# Altium integrated library AltiumOpenLibs.IntLib: 190 symbols (part 1 of 2)
Pins are listed as number, name and electrical type; pins without a type are passive.

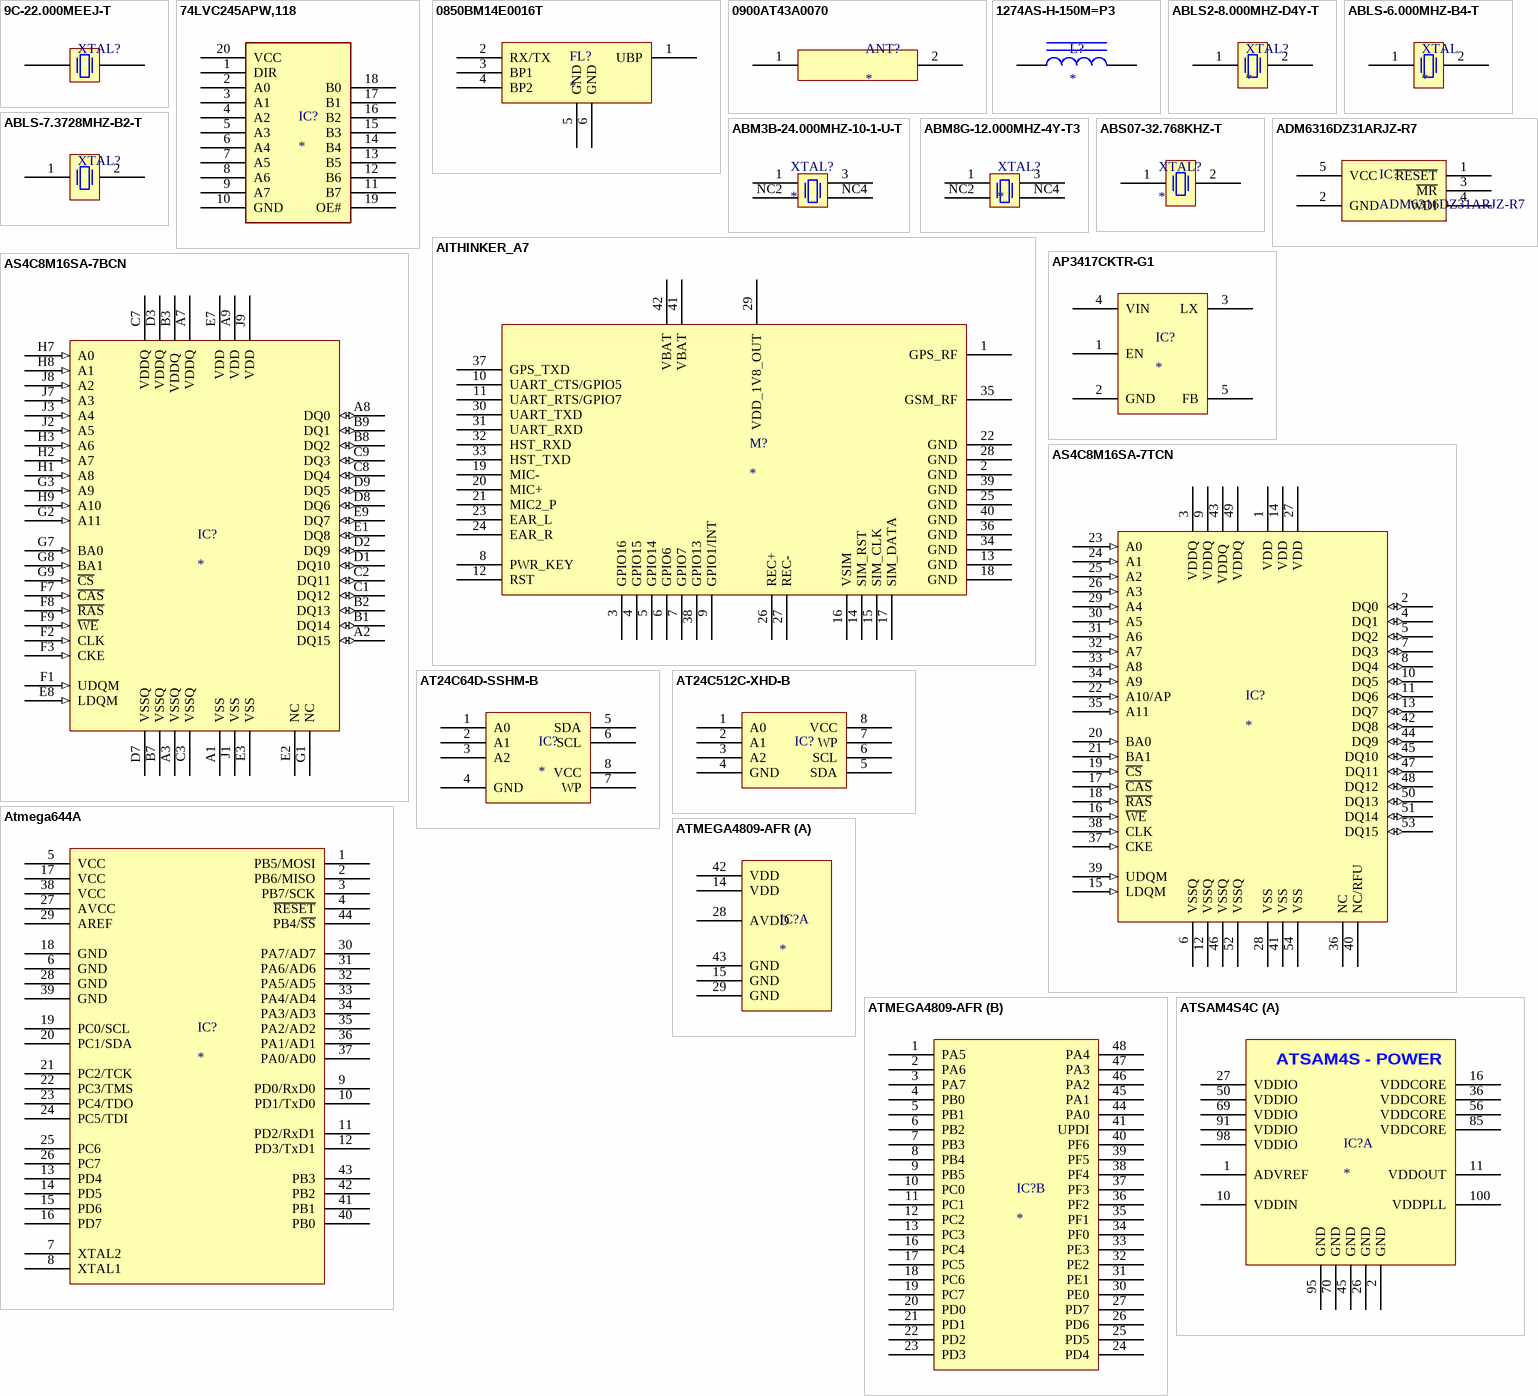
[diagram p0: symbols 9C-22.000MEEJ-T to ATSAM4S4C]

## 9C-22.000MEEJ-T
designator XTAL?  (value not drawn)
TXC  9C-22.000MEEJ-T  XTAL, 22.000MHZ, 18PF, SMD, HC-49S; Manufacturer Part No: 9C-22.000MEEJ-T; Manufacturer: TXC; Component Type: Crystal; Order Code: *; Supplier: *
footprint 9C-22.000MEEJ-T
pins: 1, 2

## 74LVC245APW,118
designator IC?
Manufacturer: NEXPERIA; Manufacturer Part No: 74LVC245APW,118; Component Type: IC; Order Code: *; Supplier: *
footprint 74LVC245APW,118
pins: 1 DIR, 2 A0, 3 A1, 4 A2, 5 A3, 6 A4, 7 A5, 8 A6, 9 A7, 10 GND, 11 B7, 12 B6, 13 B5, 14 B4, 15 B3, 16 B2, 17 B1, 18 B0, 19 OE#, 20 VCC

## 0850BM14E0016T
designator FL?
Manufacturer: Johanson Technology; Manufacturer Part No: 0850BM14E0016T; Component Type: Balun; Order Code: *; Supplier: *
footprint 0850BM14E0016T
pins: 1 UBP, 2 RX/TX, 3 BP1, 4 BP2, 5 GND, 6 GND

## 0900AT43A0070
designator ANT?
Manufacturer: Johanson Technology; Manufacturer Part No: 0900AT43A0070; Component Type: Antenna; Order Code: *; Supplier: *
footprint 0900AT43A0070
pins: 1, 2

## 1274AS-H-150M=P3
designator L?
Manufacturer Part No: 1274AS-H-150M=P3; Manufacturer: MURATA; Component Type: Inductor; Order Code: *; Supplier: *
footprint 1274AS-H-150M=P3 (Chip Inductor, 2-Leads, Body 10.00x10.00mm, IPC Medium Density)
pins: 1, 2

## ABLS2-8.000MHZ-D4Y-T
designator XTAL?
Crystal, 8 MHz, SMD, 11.4mm x 4.7mm, 30 ppm, 18 pF, 30 ppm, ABLS2 Series; Manufacturer: ABRACON; Manufacturer Part No: ABLS2-8.000MHZ-D4Y-T; Value: 8MHz; Component Type: Crystal; Order Code: *; Supplier: *
footprint ABLS2-8.000MHZ-D4Y-T
pins: 1, 2

## ABLS-6.000MHZ-B4-T
designator XTAL
ABRACON  ABLS-6.000MHZ-B4-T  CRYSTAL, 6MHZ, 18PF, HC-49US; Component Type: CRYSTAL; Manufacturer: ABRACON; Manufacturer Part No: ABLS-6.000MHZ-B4-T
footprint ABLS-6.000MHZ-B4-T
pins: 1, 2

## ABLS-7.3728MHZ-B2-T
designator XTAL?  (value not drawn)
ABLS-7.3728MHZ-B2-T; Manufacturer: ABRACON; Manufacturer Part No: ABLS-7.3728MHZ-B2-T; Component Type: Crystal; Value: 7.3728 MHz; Order Code: *; Supplier: *
footprint ABLS-7.3728MHZ-B2-T
pins: 1, 2

## ABM3B-24.000MHZ-10-1-U-T
designator XTAL?
ABRACON  ABM3B-24.000MHZ-10-1-U-T  Crystal, 24 MHz, SMD, 5mm x 3.2mm, 10 ppm, 10 pF, 10 ppm, ABM3B Series; Manufacturer: ABRACON; Manufacturer Part No: ABM3B-24.000MHZ-10-1-U-T; Component Type: Crystal; Order Code: *; Supplier: *
footprint ABM3B-24.000MHZ-10-1-U-T
pins: 1, 3, NC2, NC4

## ABM8G-12.000MHZ-4Y-T3
designator XTAL?
Manufacturer: ABRACON; Manufacturer Part No: ABM8G-12.000MHZ-4Y-T3; Component Type: Crystal; Order Code: *; Supplier: *
footprint ABM8G-12.000MHZ-4Y-T3
pins: 1, 3, NC2, NC4

## ABS07-32.768KHZ-T
designator XTAL?
ABRACON  ABS07-32.768KHZ-T  CRYSTAL, 32.768KHZ, 12.5PF, SMD; Component Type: Crystal; Manufacturer Part No: ABS07-32.768KHZ-T; Manufacturer: ABRACON; Order Code: *; Supplier: *
footprint ABS07-32.768KHZ-T
pins: 1, 2

## ADM6316DZ31ARJZ-R7
designator IC?
ANALOG DEVICES  ADM6316DZ31ARJZ-R7  Supervisory Circuit, Manual Reset, Active-Low Reset, 1V-5.5Vin, SOT-23-5; Manufacturer Part No: ADM6316DZ31ARJZ-R7; Manufacturer: ANALOG DEVICES; Component Type: IC; Order Code: *; Supplier: *
footprint ADM6316DZ31ARJZ-R7
pins: 1 ~{RESET}, 2 GND, 3 ~{MR}, 4 WDI, 5 VCC

## AITHINKER_A7
designator M?
Manufacturer: AI THINKER; Manufacturer Part No: A7; Component Type: GSM/GPRS/GPS Module; Order Code: *; Supplier: *
footprint AITHINKER_A7
pins: 1 GPS_RF, 2 GND, 3 GPIO16, 4 GPIO15, 5 GPIO14, 6 GPIO6, 7 GPIO7, 8 PWR_KEY, 9 GPIO1/INT, 10 UART_CTS/GPIO5, 11 UART_RTS/GPIO7, 12 RST, 13 GND, 14 SIM_RST, 15 SIM_CLK, 16 VSIM, 17 SIM_DATA, 18 GND, 19 MIC-, 20 MIC+, 21 MIC2_P, 22 GND, 23 EAR_L, 24 EAR_R, 25 GND, 26 REC+, 27 REC-, 28 GND, 29 VDD_1V8_OUT, 30 UART_TXD, 31 UART_RXD, 32 HST_RXD, 33 HST_TXD, 34 GND, 35 GSM_RF, 36 GND, 37 GPS_TXD, 38 GPIO13, 39 GND, 40 GND, 41 VBAT, 42 VBAT

## AP3417CKTR-G1
designator IC?
Manufacturer: Diodes Inc; Manufacturer Part No: AP3417CKTR-G1; Component Type: IC; Supplier: *; Order Code: *
footprint AP3417CKTR-G1
pins: 1 EN, 2 GND, 3 LX, 4 VIN, 5 FB

## AS4C8M16SA-7BCN
designator IC?
128M - 8M x 16 bit Synchronous DRAM (SDRAM); Manufacturer: Alliance Memory; Manufacturer Part No: AS4C8M16SA-7BCN; Order Code: *; Supplier: *; Component Type: IC
footprint AS4C8M16SA-7BCN
pins: A1 VSS (power), A2 DQ15 (io), A3 VSSQ (power), A7 VDDQ (power), A8 DQ0 (io), A9 VDD (power), B1 DQ14 (io), B2 DQ13 (io), B3 VDDQ  (power), B7 VSSQ (power), B8 DQ2 (io), B9 DQ1 (io), C1 DQ12 (io), C2 DQ11 (io), C3 VSSQ (power), C7 VDDQ (power), C8 DQ4 (io), C9 DQ3 (io), D1 DQ10 (io), D2 DQ9 (io), D3 VDDQ (power), D7 VSSQ (power), D8 DQ6 (io), D9 DQ5 (io), E1 DQ8 (io), E2 NC, E3 VSS (power), E7 VDD (power), E8 LDQM (in), E9 DQ7 (io), F1 UDQM (in), F2 CLK (in), F3 CKE (in), F7 ~{CAS} (in), F8 ~{RAS} (in), F9 ~{WE} (in), G1 NC, G2 A11 (in), G3 A9 (in), G7 BA0 (in), G8 BA1 (in), G9 ~{CS} (in), H1 A8 (in), H2 A7 (in), H3 A6 (in), H7 A0 (in), H8 A1 (in), H9 A10 (in), J1 VSS (power), J2 A5 (in), J3 A4 (in), J7 A3 (in), J8 A2 (in), J9 VDD (power)

## AS4C8M16SA-7TCN
designator IC?
128M - 8M x 16 bit Synchronous DRAM (SDRAM); Manufacturer: Alliance Memory; Manufacturer Part No: AS4C8M16SA-7TCN; Supplier: *; Order Code: *; Component Type: IC
footprint TSOP80P1180X120-54N (TSOP, 54-Leads, Body 22.22x10.16mm, Pitch 0.80mm, IPC Medium Density)
pins: 1 VDD (power), 2 DQ0 (io), 3 VDDQ (power), 4 DQ1 (io), 5 DQ2 (io), 6 VSSQ (power), 7 DQ3 (io), 8 DQ4 (io), 9 VDDQ (power), 10 DQ5 (io), 11 DQ6 (io), 12 VSSQ (power), 13 DQ7 (io), 14 VDD (power), 15 LDQM (in), 16 ~{WE} (in), 17 ~{CAS} (in), 18 ~{RAS} (in), 19 ~{CS} (in), 20 BA0 (in), 21 BA1 (in), 22 A10/AP (in), 23 A0 (in), 24 A1 (in), 25 A2 (in), 26 A3 (in), 27 VDD (power), 28 VSS (power), 29 A4 (in), 30 A5 (in), 31 A6 (in), 32 A7 (in), 33 A8 (in), 34 A9 (in), 35 A11 (in), 36 NC, 37 CKE (in), 38 CLK (in), 39 UDQM (in), 40 NC/RFU, 41 VSS (power), 42 DQ8 (io), 43 VDDQ  (power), 44 DQ9 (io), 45 DQ10 (io), 46 VSSQ (power), 47 DQ11 (io), 48 DQ12 (io), 49 VDDQ (power), 50 DQ13 (io), 51 DQ14 (io), 52 VSSQ (power), 53 DQ15 (io), 54 VSS (power)

## AT24C64D-SSHM-B
designator IC?
ATMEL  AT24C64D-SSHM-B  EEPROM, 64 Kbit, 8K x 8bit, 1 MHz, Serial, SOIC, 8 Pins; Manufacturer: ATMEL; Manufacturer Part No: AT24C64D-SSHM-B; Component Type: IC; Order Code: *; Supplier: *
footprint AT24C64D-SSHM-B (TSOP, 8-Leads, Body 3.00x4.40mm, Pitch 0.65mm, IPC Medium Density)
pins: 1 A0, 2 A1, 3 A2, 4 GND, 5 SDA, 6 SCL, 7 WP, 8 VCC

## AT24C512C-XHD-B
designator IC?  (value not drawn)
Manufacturer: ATMEL; Manufacturer Part No: AT24C512C-XHD-B; Component Type: IC; Order Code: *; Supplier: *
footprint AT24C512C-XHD-B (TSOP, 8-Leads, Body 3.00x4.40mm, Pitch 0.65mm, IPC Medium Density)
pins: 1 A0, 2 A1, 3 A2, 4 GND, 5 SDA, 6 SCL, 7 WP, 8 VCC

## Atmega644A
designator IC?
Manufacturer: ATMEL; Manufacturer Part No: ATMEGA644A-AU; Component Type: IC; Order Code: *; Supplier: *
footprint ATMEGA644A-AU (TQFP, 44-Leads, Body 10.00x10.00mm, Pitch 0.80mm, IPC Medium Density)
pins: 1 PB5/MOSI, 2 PB6/MISO, 3 PB7/SCK, 4 ~{RESET}, 5 VCC , 6 GND, 7 XTAL2, 8 XTAL1, 9 PD0/RxD0, 10 PD1/TxD0, 11 PD2/RxD1, 12 PD3/TxD1, 13 PD4, 14 PD5, 15 PD6, 16 PD7, 17 VCC, 18 GND, 19 PC0/SCL, 20 PC1/SDA, 21 PC2/TCK, 22 PC3/TMS, 23 PC4/TDO, 24 PC5/TDI, 25 PC6, 26 PC7, 27 AVCC, 28 GND, 29 AREF, 30 PA7/AD7, 31 PA6/AD6, 32 PA5/AD5, 33 PA4/AD4, 34 PA3/AD3, 35 PA2/AD2, 36 PA1/AD1, 37 PA0/AD0, 38 VCC, 39 GND, 40 PB0, 41 PB1, 42 PB2, 43 PB3, 44 PB4/~{SS}

## ATMEGA4809-AFR
designator IC?
Manufacturer: Microchip; Manufacturer Part No: ATMEGA4809-AFR; Order Code: *; Component Type: IC; Supplier: *
footprint ATMEGA4809-AFR (TSQFP, 48-Leads, Body 7,00x7,00mm, Pitch 0,50mm, IPC Medium Density)
part A pins: 14 VDD, 15 GND, 28 AVDD, 29 GND, 42 VDD, 43 GND
part B pins: 1 PA5, 2 PA6, 3 PA7, 4 PB0, 5 PB1, 6 PB2, 7 PB3, 8 PB4, 9 PB5, 10 PC0, 11 PC1, 12 PC2, 13 PC3, 16 PC4, 17 PC5, 18 PC6, 19 PC7, 20 PD0, 21 PD1, 22 PD2, 23 PD3, 24 PD4, 25 PD5, 26 PD6, 27 PD7, 30 PE0, 31 PE1, 32 PE2, 33 PE3, 34 PF0, 35 PF1, 36 PF2, 37 PF3, 38 PF4, 39 PF5, 40 PF6, 41 UPDI, 44 PA0, 45 PA1, 46 PA2, 47 PA3, 48 PA4

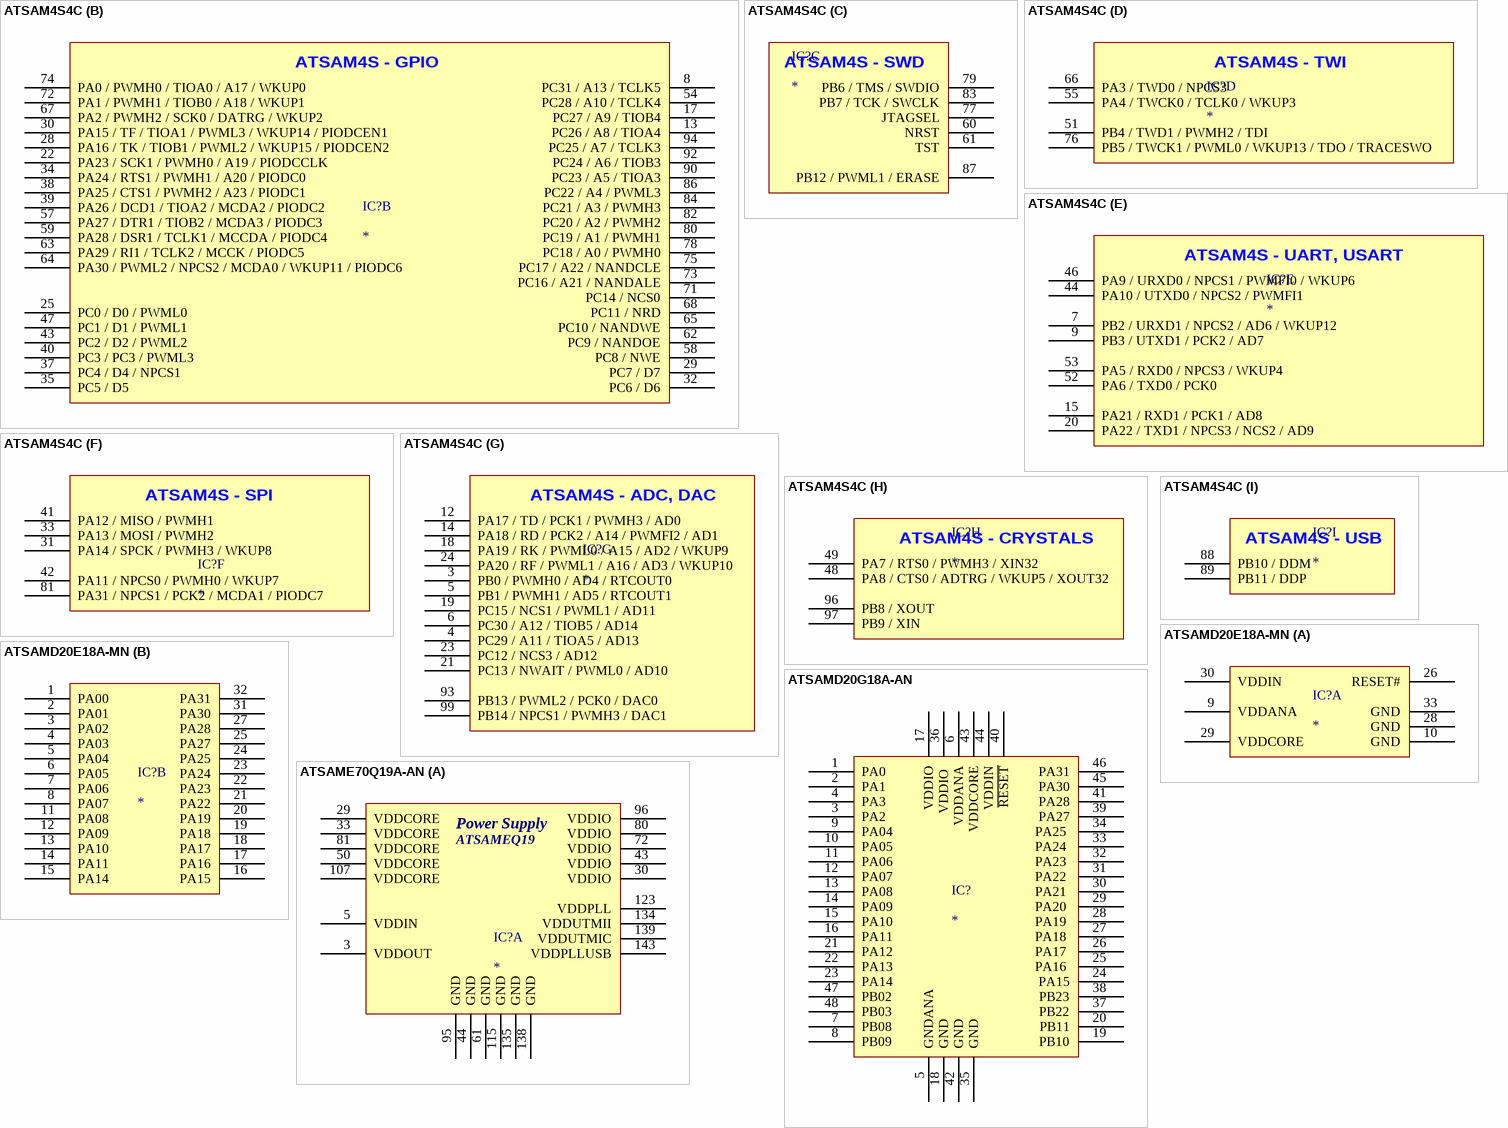
[diagram p1: symbols ATSAM4S4C to ATSAME70Q19A-AN]

## ATSAM4S4C
designator IC?
Manufacturer: Microchip; Manufacturer Part No: ATSAM4S4C; Component Type: IC; Order Code: *; Supplier: *
footprint ATSAM4S4C
part A pins: 1 ADVREF, 2 GND (power), 10 VDDIN (power), 11 VDDOUT (power), 16 VDDCORE (power), 26 GND (power), 27 VDDIO (power), 36 VDDCORE (power), 45 GND (power), 50 VDDIO (power), 56 VDDCORE (power), 69 VDDIO (power), 70 GND (power), 85 VDDCORE (power), 91 VDDIO (power), 95 GND (power), 98 VDDIO (power), 100 VDDPLL (power)
part B pins: 8 PC31 / A13 / TCLK5, 13 PC26 / A8 / TIOA4, 17 PC27 / A9 / TIOB4, 22 PA23 / SCK1 / PWMH0 / A19 / PIODCCLK, 25 PC0 / D0 / PWML0, 28 PA16 / TK / TIOB1 / PWML2 / WKUP15 / PIODCEN2 "SSC transmit Clock", 29 PC7 / D7, 30 PA15 / TF / TIOA1 / PWML3 / WKUP14 / PIODCEN1 "SSC Transmit Frame Sync", 32 PC6 / D6, 34 PA24 / RTS1 / PWMH1 / A20 / PIODC0, 35 PC5 / D5, 37 PC4 / D4 / NPCS1, 38 PA25 / CTS1 / PWMH2 / A23 / PIODC1, 39 PA26 / DCD1 / TIOA2 / MCDA2 / PIODC2, 40 PC3 / PC3 / PWML3, 43 PC2 / D2 / PWML2, 47 PC1 / D1 / PWML1, 54 PC28 / A10 / TCLK4, 57 PA27 / DTR1 / TIOB2 / MCDA3 / PIODC3, 58 PC8 / NWE, 59 PA28 / DSR1 / TCLK1 / MCCDA / PIODC4, 62 PC9 / NANDOE, 63 PA29 / RI1 / TCLK2 / MCCK / PIODC5, 64 PA30 / PWML2 / NPCS2 / MCDA0 / WKUP11 / PIODC6, 65 PC10 / NANDWE, 67 PA2 / PWMH2 / SCK0 / DATRG / WKUP2, 68 PC11 / NRD, 71 PC14 / NCS0, 72 PA1 / PWMH1 / TIOB0 / A18 / WKUP1, 73 PC16 / A21 / NANDALE, 74 PA0 / PWMH0 / TIOA0 / A17 / WKUP0, 75 PC17 / A22 / NANDCLE, 78 PC18 / A0 / PWMH0, 80 PC19 / A1 / PWMH1, 82 PC20 / A2 / PWMH2, 84 PC21 / A3 / PWMH3, 86 PC22 / A4 / PWML3, 90 PC23 / A5 / TIOA3, 92 PC24 / A6 / TIOB3, 94 PC25 / A7 / TCLK3
part C pins: 60 NRST, 61 TST, 77 JTAGSEL, 79 PB6 / TMS / SWDIO, 83 PB7 / TCK / SWCLK, 87 PB12 / PWML1 / ERASE
part D pins: 51 PB4 / TWD1 / PWMH2 / TDI, 55 PA4 / TWCK0 / TCLK0 / WKUP3, 66 PA3 / TWD0 / NPCS3, 76 PB5 / TWCK1 / PWML0 / WKUP13 / TDO / TRACESWO
part E pins: 7 PB2 / URXD1 / NPCS2 / AD6 / WKUP12, 9 PB3 / UTXD1 / PCK2 / AD7, 15 PA21 / RXD1 / PCK1 / AD8, 20 PA22 / TXD1 / NPCS3 / NCS2 / AD9, 44 PA10 / UTXD0 / NPCS2 / PWMFI1, 46 PA9 / URXD0 / NPCS1 / PWMFI0 / WKUP6, 52 PA6 / TXD0 / PCK0, 53 PA5 / RXD0 / NPCS3 / WKUP4
part F pins: 31 PA14 / SPCK / PWMH3 / WKUP8, 33 PA13 / MOSI / PWMH2, 41 PA12 / MISO / PWMH1, 42 PA11 / NPCS0 / PWMH0 / WKUP7, 81 PA31 / NPCS1 / PCK2 / MCDA1 / PIODC7
part G pins: 3 PB0 / PWMH0 / AD4 / RTCOUT0, 4 PC29 / A11 / TIOA5 / AD13, 5 PB1 / PWMH1 / AD5 / RTCOUT1, 6 PC30 / A12 / TIOB5 / AD14, 12 PA17 / TD / PCK1 / PWMH3 / AD0 "SSC Transmit Data", 14 PA18 / RD / PCK2 / A14 / PWMFI2 / AD1 "SSC Receive Data", 18 PA19 / RK / PWML0 / A15 / AD2 / WKUP9 "SSC Receive Clock", 19 PC15 / NCS1 / PWML1 / AD11, 21 PC13 / NWAIT / PWML0 / AD10, 23 PC12 / NCS3 / AD12, 24 PA20 / RF / PWML1 / A16 / AD3 / WKUP10 "SSC Receive Frame Sync", 93 PB13 / PWML2 / PCK0 / DAC0, 99 PB14 / NPCS1 / PWMH3 / DAC1
part H pins: 48 PA8 / CTS0 / ADTRG / WKUP5 / XOUT32, 49 PA7 / RTS0 / PWMH3 / XIN32, 96 PB8 / XOUT, 97 PB9 / XIN
part I pins: 88 PB10 / DDM, 89 PB11 / DDP
part A text: ATSAM4S - POWER
part B text: ATSAM4S - GPIO
part C text: ATSAM4S - SWD
part D text: ATSAM4S - TWI
part E text: ATSAM4S - UART, USART
part F text: ATSAM4S - SPI
part G text: ATSAM4S - ADC, DAC
part H text: ATSAM4S - CRYSTALS
part I text: ATSAM4S - USB

## ATSAMD20E18A-MN
designator IC?
Manufacturer: Microchip; Manufacturer Part No: ATSAMD20E18A-MN; Order Code: *; Supplier: *; Component Type: IC
footprint ATSAMD20E18A-AN (QFN, 32-Leads, Body 5,00x5,00mm, Pitch 0,50mm, Thermal Pad 3,60x3,60mm, IPC Medium Density)
part A pins: 9 VDDANA, 10 GND, 26 RESET#, 28 GND, 29 VDDCORE, 30 VDDIN, 33 GND
part B pins: 1 PA00, 2 PA01, 3 PA02, 4 PA03, 5 PA04, 6 PA05, 7 PA06, 8 PA07, 11 PA08, 12 PA09, 13 PA10, 14 PA11, 15 PA14, 16 PA15, 17 PA16, 18 PA17, 19 PA18, 20 PA19, 21 PA22, 22 PA23, 23 PA24, 24 PA25, 25 PA27, 27 PA28, 31 PA30, 32 PA31

## ATSAMD20G18A-AN
designator IC?
Manufacturer: ATMEL; Manufacturer Part No: ATSAMD20G18A-AN; Component Type: IC; Order Code: *; Supplier: *
footprint ATSAMD20G18A-AN (TSQFP, 48-Leads, Body 7.00x7.00mm, Pitch 0.50mm, IPC Medium Density)
pins: 1 PA0, 2 PA1, 3 PA2, 4 PA3, 5 GNDANA, 6 VDDANA, 7 PB08, 8 PB09, 9 PA04, 10 PA05, 11 PA06, 12 PA07, 13 PA08, 14 PA09, 15 PA10, 16 PA11, 17 VDDIO, 18 GND, 19 PB10, 20 PB11, 21 PA12, 22 PA13, 23 PA14, 24 PA15, 25 PA16 , 26 PA17 , 27 PA18 , 28 PA19 , 29 PA20 , 30 PA21 , 31 PA22 , 32 PA23 , 33 PA24 , 34 PA25 , 35 GND , 36 VDDIO , 37 PB22, 38 PB23, 39 PA27, 40 ~{RESET}, 41 PA28, 42 GND, 43 VDDCORE, 44 VDDIN, 45 PA30, 46 PA31, 47 PB02, 48 PB03

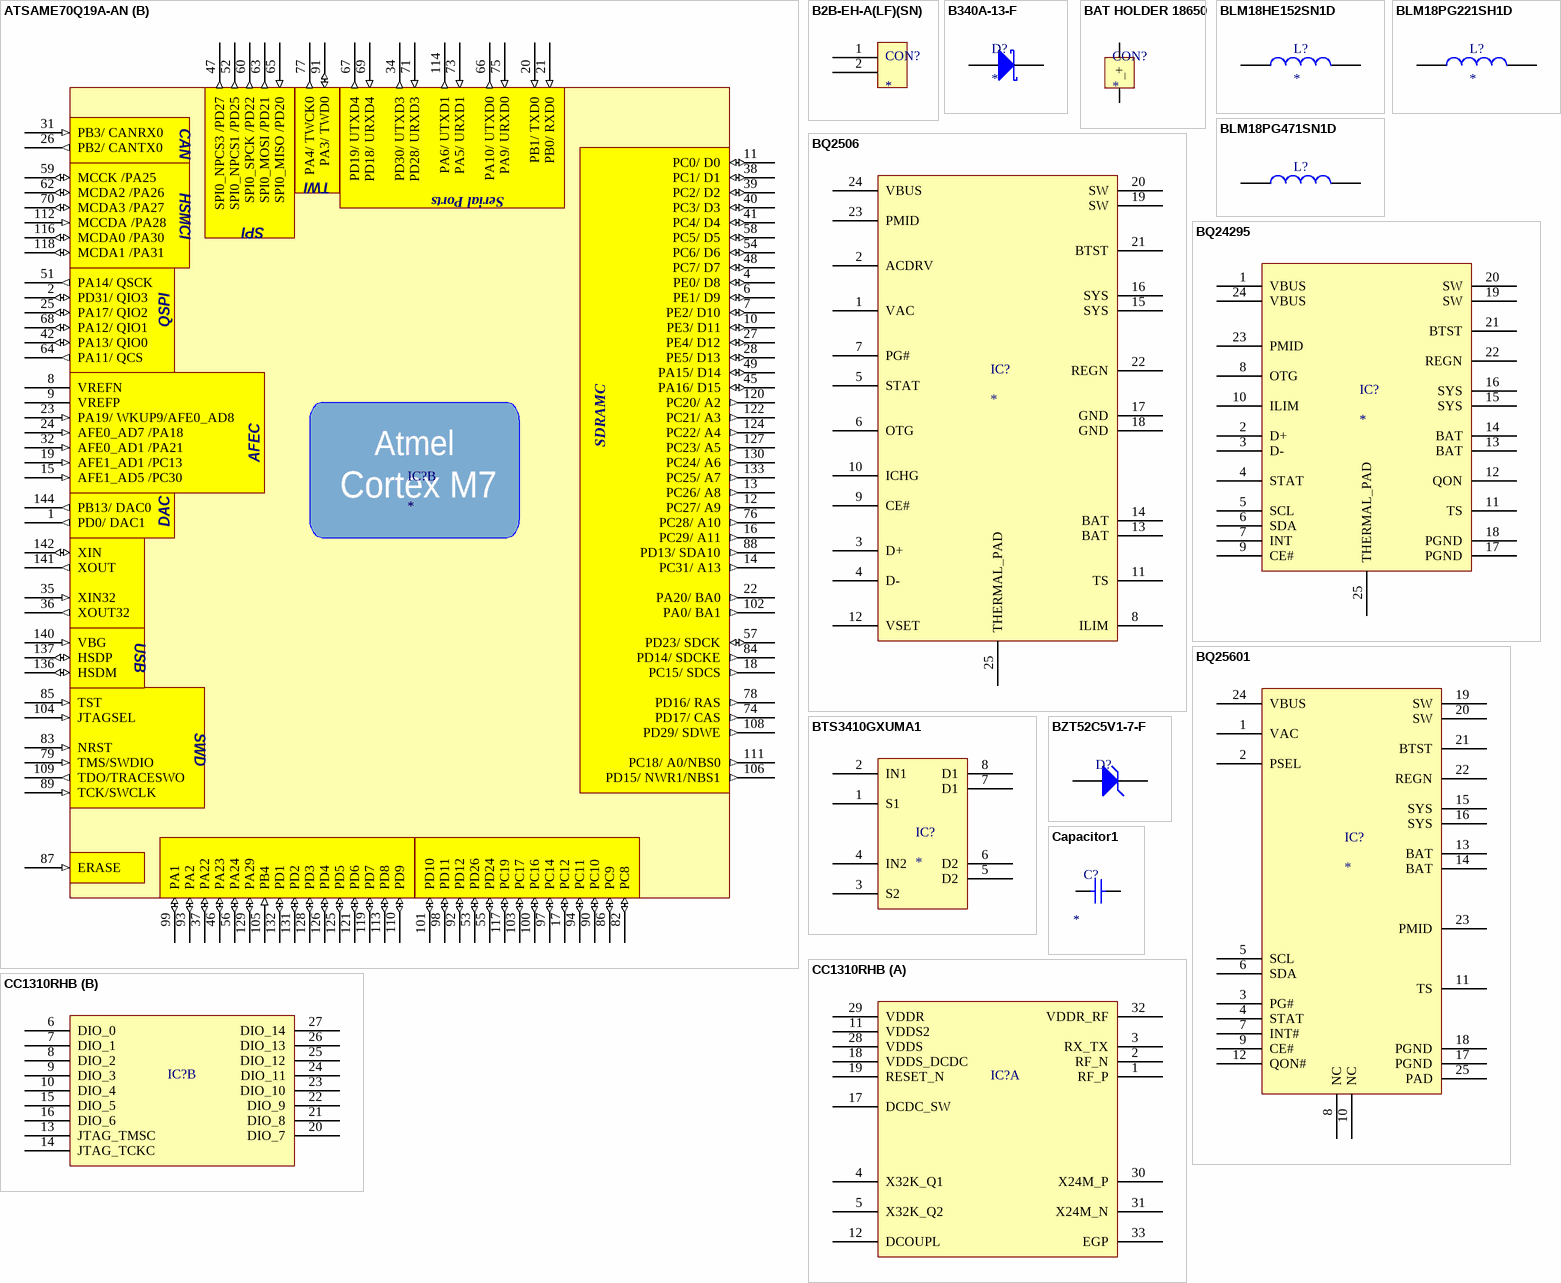
[diagram p2: symbols ATSAME70Q19A-AN to CC1310RHB]

## ATSAME70Q19A-AN
designator IC?
ATMEL  ATSAME70Q19A-AN  MCU, 32BIT, CORTEX-M7, 300MHZ, LQFP-144; Manufacturer: ATMEL; Order Code: *; Manufacturer Part No: ATSAME70Q19A-AN; Component Type: IC; Supplier: *
footprint ATSAME70Q19A-AN (TSQFP, 144-Leads, Body 20,00x20,00mm, Pitch 0,50mm, IPC Medium Density)
part A pins: 3 VDDOUT (power), 5 VDDIN (power), 29 VDDCORE (power), 30 VDDIO (power), 33 VDDCORE (power), 43 VDDIO (power), 44 GND (power), 50 VDDCORE (power), 61 GND (power), 72 VDDIO (power), 80 VDDIO (power), 81 VDDCORE (power), 95 GND (power), 96 VDDIO (power), 107 VDDCORE (power), 115 GND (power), 123 VDDPLL (power), 134 VDDUTMII (power), 135 GND (power), 138 GND (power), 139 VDDUTMIC (power), 143 VDDPLLUSB (power)
part B pins: 1 PD0/ DAC1 (out), 2 PD31/ QIO3 (io), 4 PE0/ D8 (io), 6 PE1/ D9 (io), 7 PE2/ D10 (io), 8 VREFN (power), 9 VREFP (power), 10 PE3/ D11 (io), 11 PC0/ D0 (io), 12 PC27/ A9 (out), 13 PC26/ A8 (out), 14 PC31/ A13 (out), 15 AFE1_AD5 /PC30 (in), 16 PC29/ A11 (out), 17 PC12 (io), 18 PC15/ SDCS (out), 19 AFE1_AD1 /PC13 (in), 20 PB1/ TXD0 (in), 21 PB0/ RXD0 (in), 22 PA20/ BA0 (out), 23 PA19/ WKUP9/AFE0_AD8 (in), 24 AFE0_AD7 /PA18 (in), 25 PA17/ QIO2 (io), 26 PB2/ CANTX0 (out), 27 PE4/ D12 (io), 28 PE5/ D13 (io), 31 PB3/ CANRX0 (in), 32 AFE0_AD1 /PA21 (in), 34 PD30/ UTXD3 (out), 35 XIN32 (in), 36 XOUT32 (out), 37 PA22 (io), 38 PC1/ D1 (io), 39 PC2/ D2 (io), 40 PC3/ D3 (io), 41 PC4/ D4 (io), 42 PA13/ QIO0 (io), 45 PA16/ D15 (io), 46 PA23 (io), 47 SPI0_NPCS3 /PD27 (out), 48 PC7/ D7 (io), 49 PA15/ D14 (io), 51 PA14/ QSCK (out), 52 SPI0_NPCS1 /PD25 (out), 53 PD26 (io), 54 PC6/ D6 (io), 55 PD24 (io), 56 PA24 (io), 57 PD23/ SDCK (io), 58 PC5/ D5 (io), 59 MCCK /PA25 (io), 60 SPI0_SPCK /PD22 (out), 62 MCDA2 /PA26 (io), 63 SPI0_MOSI /PD21 (out), 64 PA11/ QCS  (out), 65 SPI0_MISO /PD20 (in), 66 PA10/ UTXD0 (out), 67 PD19/ UTXD4 (out), 68 PA12/ QIO1 (io), 69 PD18/ URXD4 (in), 70 MCDA3 /PA27 (io), 71 PD28/ URXD3 (in), 73 PA5/ URXD1 (in), 74 PD17/ CAS (out), 75 PA9/ URXD0 (in), 76 PC28/ A10 (out), 77 PA4/ TWCK0 (out), 78 PD16/ RAS (out), 79 TMS/SWDIO (in), 82 PC8 (io), 83 NRST (in), 84 PD14/ SDCKE (out), 85 TST (in), 86 PC9 (io), 87 ERASE (in), 88 PD13/ SDA10 (out), 89 TCK/SWCLK (in), 90 PC10 (io), 91 PA3/ TWD0 (io), 92 PD12 (io), 93 PA2 (io), 94 PC11 (io), 97 PC14 (io), 98 PD11 (io), 99 PA1 (io), 100 PC16 (io), 101 PD10 (io), 102 PA0/ BA1 (out), 103 PC17 (io), 104 JTAGSEL (in), 105 PB4 (in), 106 PD15/ NWR1/NBS1 (out), 108 PD29/ SDWE (out), 109 TDO/TRACESWO (out), 110 PD9 (io), 111 PC18/ A0/NBS0 (out), 112 MCCDA /PA28 (in), 113 PD8 (io), 114 PA6/ UTXD1 (out), 116 MCDA0 /PA30 (io), 117 PC19 (io), 118 MCDA1 /PA31 (io), 119 PD7 (io), 120 PC20/ A2 (out), 121 PD6 (io), 122 PC21/ A3 (out), 124 PC22/ A4 (out), 125 PD5 (io), 126 PD4 (io), 127 PC23/ A5 (out), 128 PD3 (io), 129 PA29 (io), 130 PC24/ A6 (out), 131 PD2 (io), 132 PD1 (io), 133 PC25/ A7 (out), 136 HSDM (io), 137 HSDP (io), 140 VBG (in), 141 XOUT (out), 142 XIN (io), 144 PB13/ DAC0 (out)
part A text: Power Supply; ATSAMEQ19
part B text: CAN; TWI; HSMCI; Serial Ports; SPI; QSPI; SDRAMC; AFEC; Atmel; Cortex M7; DAC; USB; SWD

## B2B-EH-A(LF)(SN)
designator CON?
JST (JAPAN SOLDERLESS TERMINALS)  B2B-EH-A(LF)(SN)  Wire-To-Board Connector, EH Series, Press Fit, Header, 2, 2.5 mm, Tin Plated Contacts; Manufacturer: JST (JAPAN SOLDERLESS TERMINALS); Manufacturer Part No: B2B-EH-A(LF)(SN); Order Code: *; Component Type: PCB Connector; Supplier: *
footprint B2B-EH-A(LF)(SN)
pins: 1, 2

## B340A-13-F
designator D?
MULTICOMP  B340A-13-F  DIODE, RECTIFIER, 3A, 40V, DO-214AC; Manufacturer: MULTICOMP; Manufacturer Part No: B340A-13-F; Order Code: *; Supplier: *; Component Type: Diode
footprint B360A-13-F
pins: 1 A, 2 K

## BAT HOLDER 18650
designator CON?
Manufacturer: Keystone Electronics; Manufacturer Part No: 1042; Component Type: Battery Holder; Order Code: *; Supplier: *
footprint BAT HOLDER 18650
pins: 1 +, 2 _

## BLM18HE152SN1D
designator L?
MURATA  BLM18HE152SN1D  Ferrite Bead, 1.5 kohm, 0603 [1608 Metric], BLM18H Series, 500 mA, 0.5 ohm, ± 25%; Manufacturer: MURATA; Manufacturer Part No: BLM18HE152SN1D; Component Type: Inductor; Order Code: *; Supplier: *
footprint 0603
pins: 1, 2

## BLM18PG221SH1D
designator L?
MURATA  BLM18PG221SH1D  FERRITE, BEAD, 0603, 0.1OHM, 1.4A; Manufacturer: MURATA; Manufacturer Part No: BLM18PG221SH1D; Component Type: Ferrite Bead; Order Code: *; Supplier: *
footprint 0603
pins: 1, 2

## BLM18PG471SN1D
designator L?  (value not drawn)
MURATA  BLM18PG471SN1D  FERRITE, BEAD, 0603, 0.2OHM, 1A; Manufacturer Part No: BLM18PG471SN1D; Manufacturer: MURATA; Order Code: *; Supplier: *; Component Type: Ferrite Bead
footprint 0603
pins: 1, 2

## BQ2506
designator IC?
Manufacturer: TEXAS INSTRUMENTS; Manufacturer Part No: BQ25606RGET; Component Type: IC; Supplier: *; Order Code: *
footprint BQ2506
pins: 1 VAC, 2 ACDRV, 3 D+, 4 D-, 5 STAT, 6 OTG, 7 PG#, 8 ILIM, 9 CE#, 10 ICHG, 11 TS, 12 VSET, 13 BAT, 14 BAT, 15 SYS, 16 SYS, 17 GND, 18 GND, 19 SW, 20 SW, 21 BTST, 22 REGN, 23 PMID, 24 VBUS, 25 THERMAL_PAD

## BQ24295
designator IC?
Battery Charger for 1 Cell of Li-Ion, Li-Pol battery, 6.2V input, 4.4V / 3A charge, VQFN-24; Manufacturer: TEXAS INSTRUMENTS; Manufacturer Part No: BQ24295RGET; Component Type: IC; Order Code: *; Supplier: *
footprint BQ24295RGET
pins: 1 VBUS, 2 D+, 3 D-, 4 STAT, 5 SCL, 6 SDA, 7 INT, 8 OTG, 9 CE#, 10 ILIM, 11 TS, 12 QON, 13 BAT, 14 BAT, 15 SYS, 16 SYS, 17 PGND, 18 PGND, 19 SW, 20 SW, 21 BTST, 22 REGN, 23 PMID, 24 VBUS, 25 THERMAL_PAD

## BQ25601
designator IC?
Manufacturer: TEXAS INSTRUMENTS; Manufacturer Part No: BQ25601; Component Type: IC; Order Code: *; Supplier: *
footprint BQ25601
pins: 1 VAC, 2 PSEL, 3 PG#, 4 STAT, 5 SCL, 6 SDA, 7 INT#, 8 NC, 9 CE#, 10 NC, 11 TS, 12 QON#, 13 BAT, 14 BAT, 15 SYS, 16 SYS, 17 PGND, 18 PGND, 19 SW, 20 SW, 21 BTST, 22 REGN, 23 PMID, 24 VBUS, 25 PAD

## BTS3410GXUMA1
designator IC?
Manufacturer: INFINEON; Manufacturer Part No: BTS3410GXUMA1; Component Type: IC; Order Code: *; Supplier: *
footprint BTS3410GXUMA1 (SOIC, 8-Leads, Body 5,10x4,10mm, Pitch 1,27mm, IPC Medium Density)
pins: 1 S1, 2 IN1, 3 S2, 4 IN2, 5 D2, 6 D2, 7 D1, 8 D1

## BZT52C5V1-7-F
designator D?  (value not drawn)
DIODES INC.  BZT52C5V1-7-F  Zener Single Diode, 5.1 V, 500 mW, SOD-123, 6 %, 2, 150 °C; Manufacturer Part No: BZT52C5V1-7-F; Manufacturer: DIODES INC; Component Type: Diode; Order Code: *; Supplier: *
footprint BZT52C5V1-7-F
pins: 1 A, 2 K

## Capacitor1
designator C?
Manufacturer: *; Manufacturer Part No: *; Component Type: Capacitor; Supplier: *; Order Code: *; Value: *
footprint 0603
footprint 1206
footprint 1210
footprint 0805
footprint 0402
footprint 2917 [7343 Metric] CAP (Chip Capacitor, 2-Leads, Body 7.30x4.30mm, IPC Medium Density)
pins: 1, 2

## CC1310RHB
designator IC?
CC1310 SimpleLink™ Ultra-Low-Power Sub-1 GHz Wireless MCU; Manufacturer: TEXAS INSTRUMENTS; Manufacturer Part No: CC1310F32RHBT; Component Type: IC
footprint CC1310RHB
part A pins: 1 RF_P, 2 RF_N, 3 RX_TX, 4 X32K_Q1 , 5 X32K_Q2, 11 VDDS2, 12 DCOUPL, 17 DCDC_SW, 18 VDDS_DCDC, 19 RESET_N, 28 VDDS, 29 VDDR, 30 X24M_P, 31 X24M_N, 32 VDDR_RF, 33 EGP
part B pins: 6 DIO_0, 7 DIO_1, 8 DIO_2, 9 DIO_3, 10 DIO_4, 13 JTAG_TMSC, 14 JTAG_TCKC, 15 DIO_5, 16 DIO_6, 20 DIO_7, 21 DIO_8, 22 DIO_9, 23 DIO_10, 24 DIO_11, 25 DIO_12, 26 DIO_13, 27 DIO_14

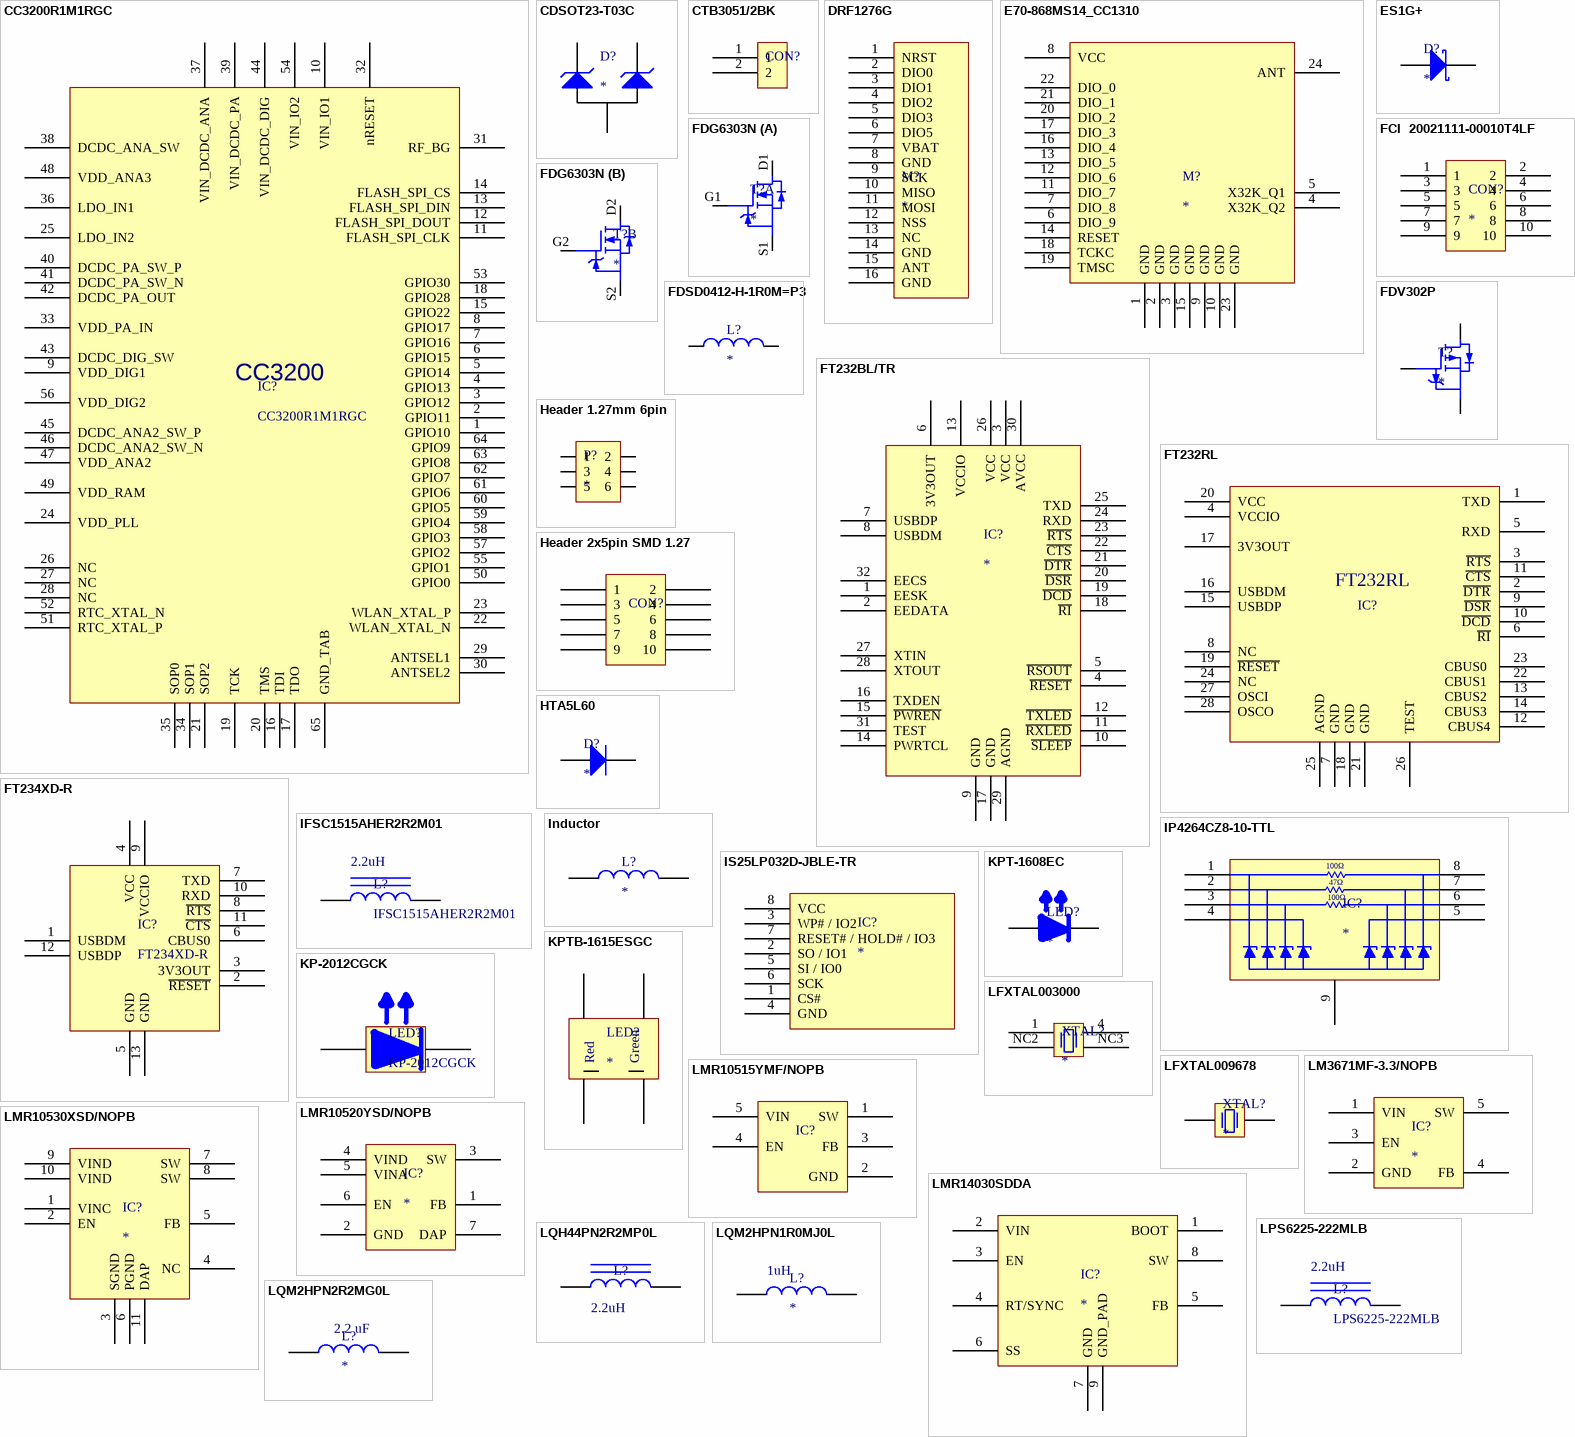
[diagram p3: symbols CC3200R1M1RGC to LQM2HPN2R2MG0L]

## CC3200R1M1RGC
designator IC?
Manufacturer: TEXAS INSTRUMENTS; Manufacturer Part No: CC3200R1M1RGC; Component Type: IC; Supplier: *; Order Code: *
footprint CC3200R1M1RGC
pins: 1 GPIO10, 2 GPIO11, 3 GPIO12, 4 GPIO13, 5 GPIO14, 6 GPIO15, 7 GPIO16, 8 GPIO17, 9 VDD_DIG1, 10 VIN_IO1, 11 FLASH_SPI_CLK, 12 FLASH_SPI_DOUT, 13 FLASH_SPI_DIN, 14 FLASH_SPI_CS, 15 GPIO22, 16 TDI, 17 TDO, 18 GPIO28, 19 TCK, 20 TMS, 21 SOP2, 22 WLAN_XTAL_N, 23 WLAN_XTAL_P, 24 VDD_PLL, 25 LDO_IN2, 26 NC, 27 NC, 28 NC, 29 ANTSEL1, 30 ANTSEL2, 31 RF_BG, 32 nRESET, 33 VDD_PA_IN, 34 SOP1, 35 SOP0, 36 LDO_IN1, 37 VIN_DCDC_ANA, 38 DCDC_ANA_SW, 39 VIN_DCDC_PA, 40 DCDC_PA_SW_P, 41 DCDC_PA_SW_N, 42 DCDC_PA_OUT, 43 DCDC_DIG_SW, 44 VIN_DCDC_DIG, 45 DCDC_ANA2_SW_P, 46 DCDC_ANA2_SW_N, 47 VDD_ANA2, 48 VDD_ANA3, 49 VDD_RAM, 50 GPIO0, 51 RTC_XTAL_P, 52 RTC_XTAL_N, 53 GPIO30, 54 VIN_IO2, 55 GPIO1, 56 VDD_DIG2, 57 GPIO2, 58 GPIO3, 59 GPIO4, 60 GPIO5, 61 GPIO6, 62 GPIO7, 63 GPIO8, 64 GPIO9, 65 GND_TAB
text: CC3200

## CDSOT23-T03C
designator D?
Manufacturer: BOURNS; Manufacturer Part No: CDSOT23-T03C; Component Type: Diode; Order Code: *; Supplier: *
footprint CDSOT23-T03C
pins: 1 K, 2 K, 3 A

## CTB3051/2BK
designator CON?  (value not drawn)
Manufacturer: CAMDENBOSS; Manufacturer Part No: CTB3051/2BK; Component Type: Connector; Order Code: *; Supplier: *
footprint CTB3051/2BK
pins: 1, 2

## DRF1276G
designator M?
Manufacturer: DORJI; Manufacturer Part No: DRF1276G; Order Code: *; Supplier: *; Component Type: Module
footprint DRF1276G
pins: 1 NRST, 2 DIO0, 3 DIO1, 4 DIO2, 5 DIO3, 6 DIO5, 7 VBAT, 8 GND, 9 SCK, 10 MISO, 11 MOSI, 12 NSS, 13 NC, 14 GND, 15 ANT, 16 GND

## E70-868MS14_CC1310
designator M?
Manufacturer: EBYTE; Manufacturer Part No: E70-868MS14; Component Type: Module Sub-1GHz; Order Code: *; Supplier: *
footprint E70-868MS14_CC1310
pins: 1 GND, 2 GND, 3 GND, 4 X32K_Q2, 5 X32K_Q1, 6 DIO_9, 7 DIO_8, 8 VCC, 9 GND, 10 GND, 11 DIO_7, 12 DIO_6, 13 DIO_5, 14 RESET, 15 GND, 16 DIO_4, 17 DIO_3, 18 TCKC, 19 TMSC, 20 DIO_2, 21 DIO_1, 22 DIO_0, 23 GND, 24 ANT

## ES1G+
designator D?
MULTICOMP  ES1G+  Fast / Ultrafast Diode, 400 V, 1 A, Single, 1.3 V, 35 ns, 30 A; Manufacturer Part No: ES1G+; Component Type: Diode; Manufacturer: MULTICOMP; Order Code: *; Supplier: *
footprint ES1G+ (Chip Diode, 2-Leads, Body 5.14x2.56mm, IPC Medium Density)
pins: 1 K, 2 A

## FCI  20021111-00010T4LF
designator CON?
FCI  20021111-00010T4LF  Board-To-Board Connector, Vertical, Minitek127 20021111 Series, Through Hole, Header, 10, 1.27 mm; Manufacturer: FCI; Manufacturer Part No: 20021111-00010T4LF; Order Code: *; Supplier: *; Component Type: Header
footprint FCI  20021111-00010T4LF
pins: 1, 2, 3, 4, 5, 6, 7, 8, 9, 10

## FDG6303N
designator T?
FAIRCHILD SEMICONDUCTOR  FDG6303N  Dual MOSFET, Dual N Channel, 500 mA, 25 V, 0.34 ohm, 4.5 V, 800 mV; Manufacturer: FAIRCHILD SEMICONDUCTOR; Manufacturer Part No: FDG6303N; Order Code: *; Component Type: Mosfet; Supplier: *
footprint FDG6303N
part A pins: D1, G1, S1
part B pins: D2, G2, S2

## FDSD0412-H-1R0M=P3
designator L?
Manufacturer: MURATA; Manufacturer Part No: FDSD0412-H-1R0M=P3; Value: 1uH; Order Code: *; Supplier: *; Component Type: Inductor
footprint FDSD0412-H-1R0M=P3
pins: 1, 2

## FDV302P
designator T?
FAIRCHILD SEMICONDUCTOR  FDV302P  MOSFET Transistor, P Channel, -120 mA, -25 V, 7.9 ohm, -4.5 V, -1 V; Manufacturer: FAIRCHILD SEMICONDUCTOR; Manufacturer Part No: FDV302P; Order Code: *; Supplier: *; Component Type: Mosfet
footprint SOT23
pins: 1 D, 2 S, 3 G

## FT232BL/TR
designator IC?
FTDI  FT232BL/TR  Interface Bridges, USB to UART, 3 V, 5.25 V, LQFP, 32 Pins, 0 °C; Manufacturer: FTDI; Manufacturer Part No: FT232BL/TR; Component Type: IC; Order Code: *; Supplier: *
footprint FT232BL/TR (TQFP, 32-Leads, Body 7.00x7.00mm, Pitch 0.80mm, IPC Medium Density)
pins: 1 EESK, 2 EEDATA, 3 VCC, 4 ~{RESET}, 5 ~{RSOUT}, 6 3V3OUT, 7 USBDP, 8 USBDM, 9 GND, 10 ~{SLEEP}, 11 ~{RXLED}, 12 ~{TXLED}, 13 VCCIO, 14 PWRTCL, 15 ~{PWREN}, 16 TXDEN, 17 GND, 18 ~{RI}, 19 ~{DCD}, 20 ~{DSR}, 21 ~{DTR}, 22 ~{CTS}, 23 ~{RTS}, 24 RXD, 25 TXD, 26 VCC, 27 XTIN, 28 XTOUT, 29 AGND, 30 AVCC, 31 TEST, 32 EECS

## FT232RL
designator IC?  (value not drawn)
Manufacturer: FTDI; Manufacturer Part No: FT232RL; Component Type: IC; Order Code: *; Supplier: *
footprint FT232RL-SSOP28 (SOP, 28-Leads, Body 10.20x5.30mm, Pitch 0.65mm, IPC Medium Density)
pins: 1 TXD, 2 ~{DTR}, 3 ~{RTS}, 4 VCCIO, 5 RXD, 6 ~{RI}, 7 GND, 8 NC, 9 ~{DSR}, 10 ~{DCD}, 11 ~{CTS}, 12 CBUS4, 13 CBUS2 , 14 CBUS3 , 15 USBDP , 16 USBDM , 17 3V3OUT , 18 GND, 19 ~{RESET}, 20 VCC, 21 GND, 22 CBUS1 , 23 CBUS0 , 24 NC, 25 AGND, 26 TEST, 27 OSCI, 28 OSCO

## FT234XD-R
designator IC?
FTDI  FT234XD-R  Interface Bridges, USB to UART, 2.97 V, 5.5 V, DFN, 12, -40 °C; Manufacturer: FTDI; Manufacturer Part No: FT234XD-R; Component Type: IC; Order Code: *; Supplier: *
footprint FT234XD-R
pins: 1 USBDM, 2 ~{RESET}, 3 3V3OUT, 4 VCC, 5 GND, 6 CBUS0, 7 TXD, 8 ~{RTS}, 9 VCCIO, 10 RXD, 11 ~{CTS}, 12 USBDP, 13 GND

## Header 1.27mm 6pin
designator P?
Manufacturer: *; Manufacturer Part No: *; Component Type: Header; Order Code: *; Supplier: *
footprint Header 1.27mm 6pin
pins: 1, 2, 3, 4, 5, 6

## Header 2x5pin SMD 1.27
designator CON?  (value not drawn)
FCI  20021121-00010C4LF.  Board-To-Board Connector, Right Angle, Minitek127 20021121 Series, Surface Mount, Header, 10; Manufacturer: FCI; Manufacturer Part No: 20021121-00010C4LF; Component Type: Header; Order Code: *; Supplier: *
footprint Header 2x5pin SMD 1.27
pins: 1, 2, 3, 4, 5, 6, 7, 8, 9, 10

## HTA5L60
designator D?
Manufacturer: MULTICOMP; Manufacturer Part No: HTA5L60; Component Type: Diode; Order Code: *; Supplier: *
footprint HTA5L60 (Chip Diode, 2-Leads, Body 5.04x2.63mm, IPC Medium Density)
pins: 1 K, 2 A

## IFSC1515AHER2R2M01
designator L?  value 2.2uH
VISHAY  IFSC1515AHER2R2M01  Surface Mount Power Inductor, IFSC-1515AH-01 Series, 2.2 µH, ± 20%, Shielded, 0.045 ohm, 3 A; Manufacturer Part No: IFSC1515AHER2R2M01; Manufacturer: VISHAY; Component Type: Inductor; Order Code: *; Supplier: *
footprint IFSC1515AHER2R2M01
pins: 1, 2

## Inductor
designator L?
Manufacturer: *; Manufacturer Part No: *; Component Type: Inductor; Value: *; Order Code: *; Supplier: *
footprint 0805
footprint 0603
footprint 0402
pins: 1, 2

## IP4264CZ8-10-TTL
designator IC?
NXP  IP4264CZ8-10-TTL  ESD Protection Device, 180 mW, 5.5 V, SOT-1166-1, 8; Manufacturer: NXP; Manufacturer Part No: IP4264CZ8-10-TTL; Order Code: *; Supplier: *; Component Type: Diode Array
footprint HUSON8
pins: 1, 2, 3, 4, 5, 6, 7, 8, 9
text: 100Ω; 47Ω

## IS25LP032D-JBLE-TR
designator IC?
Manufacturer Part No: IS25LP032D-JBLE-TR; Manufacturer: ISSI; Component Type: IC; Order Code: *; Supplier: *
footprint SOIC208-8_N
pins: 1 CS#, 2 SO / IO1, 3 WP# / IO2, 4 GND, 5 SI / IO0, 6 SCK, 7 RESET# / HOLD# / IO3, 8 VCC

## KP-2012CGCK
designator LED?
KINGBRIGHT  KP-2012CGCK  LED, Low Power, Green, 570 nm, 2.1 V, 20 mA, 50 mcd; Manufacturer Part No: KP-2012CGCK; Manufacturer: KINGBRIGHT; Component Type: LED; Order Code: *; Supplier: *
footprint KP-2012CGCK
pins: 1, 2

## KPT-1608EC
designator LED?
Manufacturer: KINGBRIGHT; Manufacturer Part No: KPT-1608EC; Component Type: LED; Order Code: *; Supplier: *
footprint KPT-1608EC
pins: 1, 2

## KPTB-1615ESGC
designator LED?
KINGBRIGHT  KPTB-1615ESGC  LED, Green, Red, R 7mcd, G 12mcd, 120 °, R 2V, G 2.2V, R 20mA, G 20mA; Manufacturer: KINGBRIGHT; Manufacturer Part No: KPTB-1615ESGC; Component Type: LED; Order Code: *; Supplier: *
footprint KPTB-1615ESGC
pins: 1, 2, 3, 4
text: Red; Green

## LFXTAL003000
designator XTAL?
IQD FREQUENCY PRODUCTS  LFXTAL003000  CRYSTAL, SMD, 32.768000KHZ, 12.5PF; Value: 32.768KHZ; Manufacturer: IQD; Manufacturer Part No: LFXTAL003000; Order Code: *; Supplier: *; Component Type: Crystal
footprint LFXTAL003000
pins: 1, 4, NC2, NC3 NC

## LFXTAL009678
designator XTAL?
LFXTAL009678 - Crystal, 32.768 kHz, SMD, 3.2mm x 1.5mm, 12.5 pF, 20 ppm, CFPX-217 Series; Manufacturer: IQD; Manufacturer Part No: LFXTAL009678; Component Type: Crystal; Supplier: *; Order Code: *
footprint LFXTAL009678
pins: 1, 2

## LM3671MF-3.3/NOPB
designator IC?
LM3671/-Q1 2-MHz, 600-mA Step-Down DC-DC Converter; Manufacturer: TEXAS INSTRUMENTS; Manufacturer Part No: LM3671MF-3.3/NOPB; Component Type: IC; Order Code: *; Supplier: *
footprint LM3671MF-3.3/NOPB
pins: 1 VIN, 2 GND, 3 EN, 4 FB, 5 SW

## LMR10515YMF/NOPB
designator IC?  (value not drawn)
TEXAS INSTRUMENTS  LMR10515YMF/NOPB  DC-DC Switching Buck (Step Down) Regulator, Adjustable, 3V-5.5Vin, 600mV-4.5Vout, 1.5Aout, SOT-23-5; Manufacturer: TEXAS INSTRUMENTS; Manufacturer Part No: LMR10515YMF/NOPB; Component Type: IC; Order Code: *; Supplier: *
footprint LMR10515YMF/NOPB
pins: 1 SW, 2 GND, 3 FB, 4 EN, 5 VIN

## LMR10520YSD/NOPB
designator IC?
TEXAS INSTRUMENTS  LMR10520YSD/NOPB  DC-DC Switching Buck (Step Down) Regulator, Adjustable, 3V-5.5Vin, 600mV-4.5Vout, 2Aout, LLP-6; Manufacturer: TEXAS INSTRUMENTS; Manufacturer Part No: LMR10520YSD/NOPB; Component Type: IC; Order Code: *; Supplier: *
footprint LMR10520YSD/NOPB
pins: 1 FB, 2 GND (power), 3 SW, 4 VIND, 5 VINA, 6 EN, 7 DAP

## LMR10530XSD/NOPB
designator IC?
Voltage Regulators - Switching Regulators SIMPLE SWITCHER Nano Reg 5Vin-3A out; Manufacturer: TEXAS INSTRUMENTS; Manufacturer Part No: LMR10530XSD/NOPB; Order Code: *; Supplier: *; Component Type: IC
footprint LMR10530XSD/NOPB
pins: 1 VINC, 2 EN, 3 SGND, 4 NC, 5 FB, 6 PGND, 7 SW, 8 SW, 9 VIND, 10 VIND, 11 DAP

## LMR14030SDDA
designator IC?
TEXAS INSTRUMENTS  LMR14030SDDA  DC-DC Switching Buck (Step Down) Regulator, Adjustable, 4V-40Vin, 800mV-28Vout, 3.5Aout, HSOIC-8; Manufacturer: TEXAS INSTRUMENTS; Manufacturer Part No: LMR14030SDDA; Component Type: IC; Order Code: *; Supplier: *
footprint LMR14030SDDA
pins: 1 BOOT, 2 VIN, 3 EN, 4 RT/SYNC, 5 FB, 6 SS, 7 GND, 8 SW, 9 GND_PAD

## LPS6225-222MLB
designator L?  value 2.2uH
Manufacturer: COILCRAFT; Manufacturer Part No: LPS6225-222MLB; Component Type: Inductor; Order Code: *; Supplier: *
footprint LPS6225-222MLB
pins: 1, 2

## LQH44PN2R2MP0L
designator L?  value 2.2uH  (hidden comment: *)
MURATA  LQH44PN2R2MP0L  Surface Mount High Frequency Inductor, LQH44P_P0 Series, 2.2 µH, ± 20%, 1515, 70 MHz, 0.049 ohm; Manufacturer Part No: LQH44PN2R2MP0L; Manufacturer: MURATA; Component Type: Inductor; Order Code: *; Supplier: *
footprint LQH44PN2R2MP0L
pins: 1, 2

## LQM2HPN1R0MJ0L
designator L?  value 1uH
MURATA  LQM2HPN1R0MJ0L  Surface Mount High Frequency Inductor, LQM2HPN Series, 1 µH, ± 20%, 1008 [2520 Metric], 70 MHz; Manufacturer: MURATA; Manufacturer Part No: LQM2HPN1R0MJ0L; Component Type: Inductor; Order Code: *; Supplier: *
footprint LQM2HPN1R0MJ0L
pins: 1, 2

## LQM2HPN2R2MG0L
designator L?  value 2.2 uF
MURATA  LQM2HPN2R2MG0L  Surface Mount High Frequency Inductor, LQM2HPN Series, 2.2 µH, ± 20%, 1008 [2520 Metric], 40 MHz; Manufacturer Part No: LQM2HPN2R2MG0L; Manufacturer: MURATA; Component Type: Inductor; Order Code: *; Supplier: *
footprint LQM2HPN2R2MG0L
pins: 1, 2

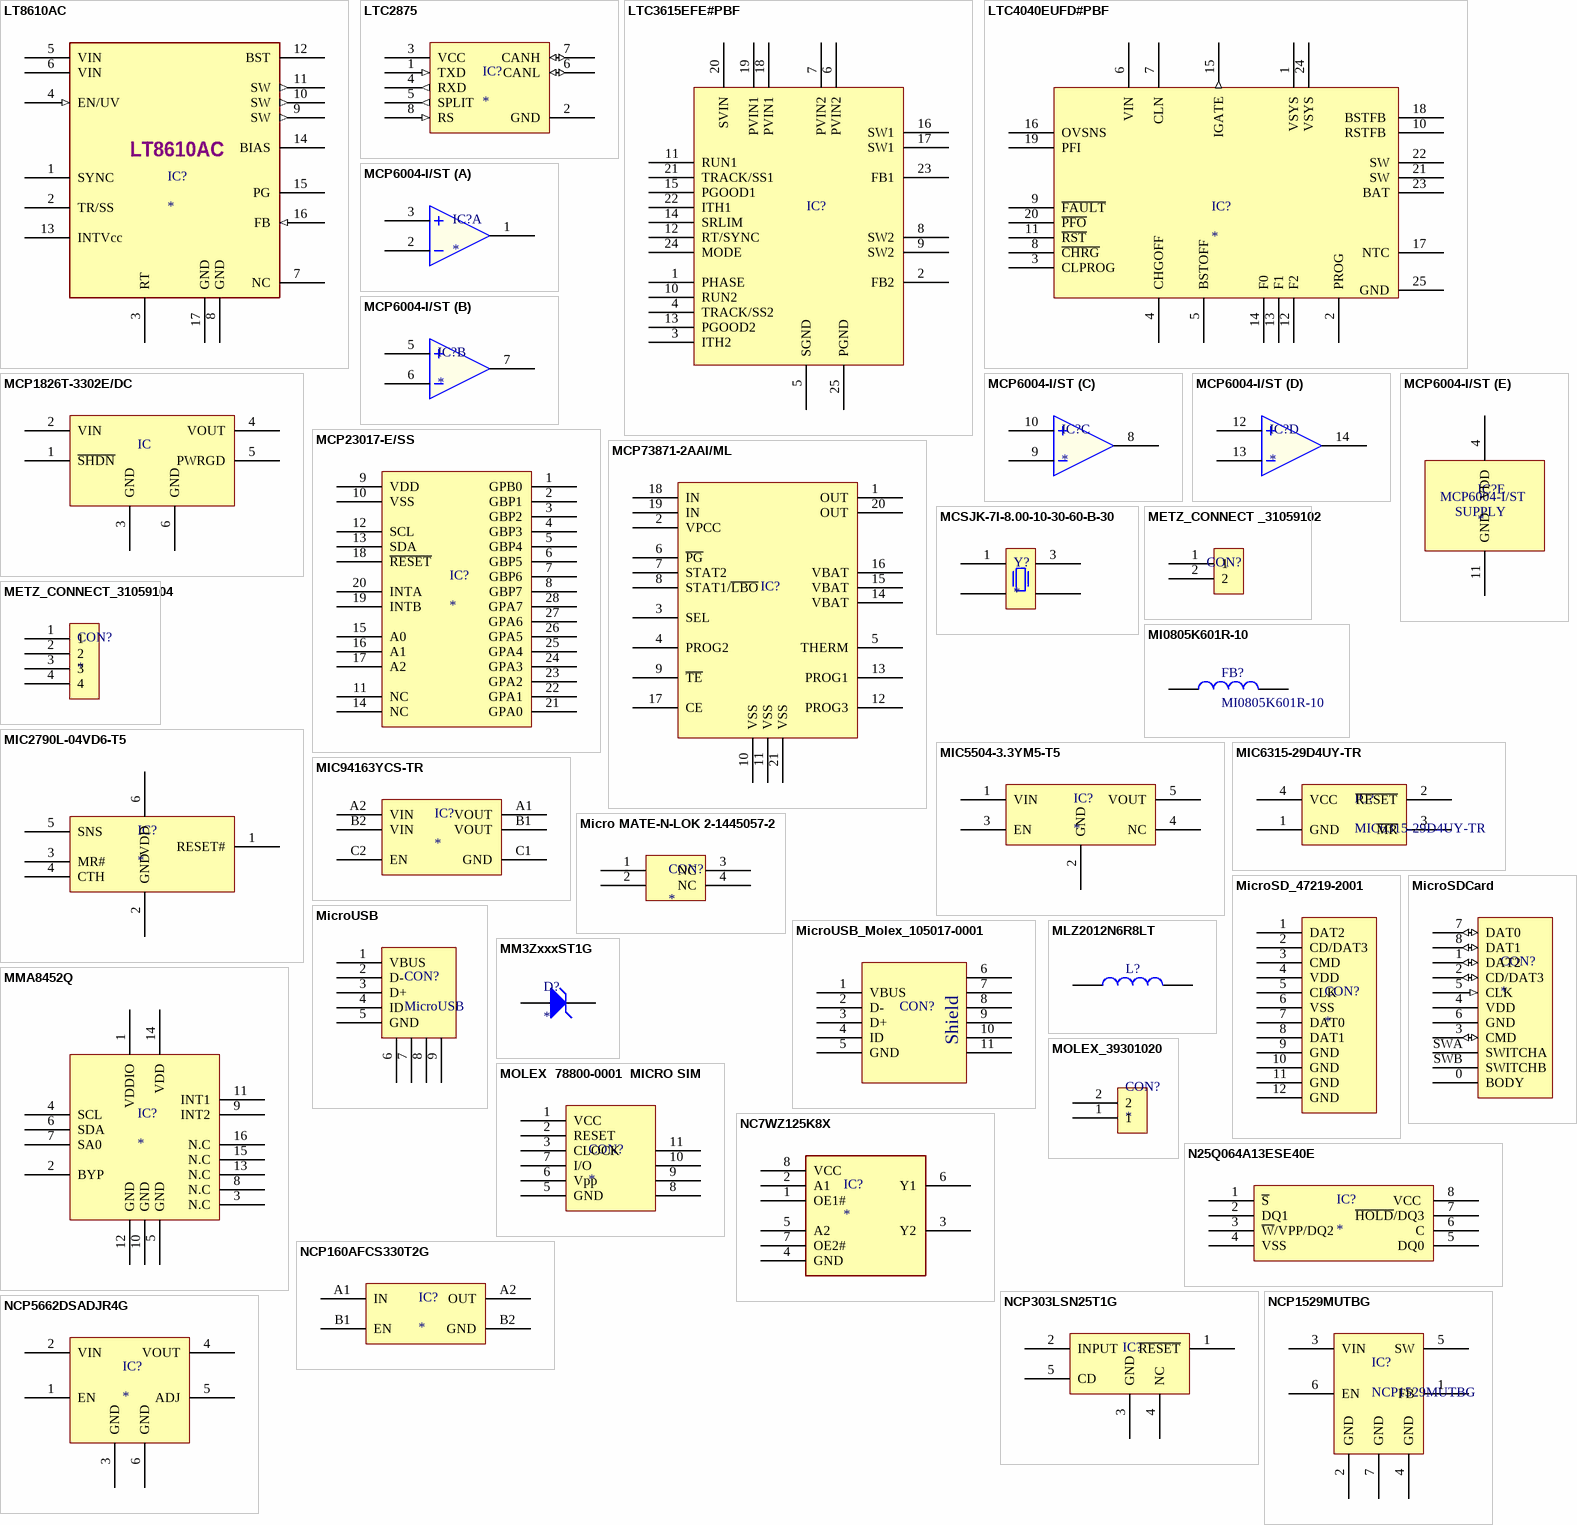
[diagram p4: symbols LT8610AC to NCP5662DSADJR4G]

## LT8610AC
designator IC?
Manufacturer: LINEAR TECHNOLOGY; Manufacturer Part No: LT8610ACEMSE#PBF; Order Code: *; Supplier: *; Component Type: IC
footprint LT8610AC
pins: 1 SYNC, 2 TR/SS, 3 RT, 4 EN/UV (in), 5 VIN (power), 6 VIN (power), 7 NC, 8 GND (power), 9 SW (out), 10 SW (out), 11 SW (out), 12 BST, 13 INTVcc, 14 BIAS, 15 PG (oc), 16 FB (in), 17 GND (power)

## LTC2875
designator IC?
LINEAR TECHNOLOGY  LTC2875IS8#PBF  CAN Bus, Transceiver, 1, 1, 4.5 V, 5.5 V, NSOIC; Manufacturer: LINEAR TECHNOLOGY; Manufacturer Part No: LTC2875IS8#PBF; Order Code: *; Supplier: *; Component Type: *
footprint LTC2875
pins: 1 TXD (in), 2 GND (power), 3 VCC (power), 4 RXD (out), 5 SPLIT (out), 6 CANL (io), 7 CANH (io), 8 RS (in)

## LTC3615EFE#PBF
designator IC?  (value not drawn)
LINEAR TECHNOLOGY  LTC3615EFE#PBF  IC, BUCK, SYNC, 3A, DUAL, 24TSSOP; Manufacturer: LINEAR TECHNOLOGY; Order Code: *; Manufacturer Part No: LTC3615EFE#PBF; Component Type: *; Supplier: *
footprint LTC3615EFE#PBF
pins: 1 PHASE, 2 FB2, 3 ITH2, 4 TRACK/SS2, 5 SGND, 6 PVIN2, 7 PVIN2, 8 SW2, 9 SW2, 10 RUN2, 11 RUN1, 12 RT/SYNC, 13 PGOOD2, 14 SRLIM, 15 PGOOD1, 16 SW1, 17 SW1, 18 PVIN1, 19 PVIN1, 20 SVIN, 21 TRACK/SS1, 22 ITH1, 23 FB1, 24 MODE, 25 PGND

## LTC4040EUFD#PBF
designator IC?
LINEAR TECHNOLOGY  LTC4040EUFD#PBF  BATT CHARGER, LI-ION/LIFEPO4, 2.5A, QFN; Manufacturer: LINEAR TECHNOLOGY; Manufacturer Part No: LTC4040EUFD#PBF; Order Code: *; Supplier: *; Component Type: IC
footprint LTC4040EUFD#PBF
pins: 1 VSYS, 2 PROG, 3 CLPROG , 4 CHGOFF, 5 BSTOFF, 6 VIN, 7 CLN, 8 ~{CHRG} , 9 ~{FAULT} , 10 RSTFB , 11 ~{RST} , 12 F2, 13 F1, 14 F0, 15 IGATE (out), 16 OVSNS, 17 NTC, 18 BSTFB , 19 PFI, 20 ~{PFO}, 21 SW, 22 SW, 23 BAT, 24 VSYS, 25 GND (power)

## MCP1826T-3302E/DC
designator IC  (value not drawn)
MICROCHIP  MCP1826T-3302E/DC  Fixed LDO Voltage Regulator, 2.3V to 6V, 250mV Dropout, 3.3Vout, 1Aout, SOT-223-5; Manufacturer: MICROCHIP; Manufacturer Part No: MCP1826T-3302E/DC; Component Type: IC; Order Code: *; Supplier: *
footprint MCP1826T-3302E/DC
pins: 1 ~{SHDN}, 2 VIN, 3 GND, 4 VOUT, 5 PWRGD, 6 GND

## MCP6004-I/ST
designator IC?
Manufacturer: MICROCHIP; Manufacturer Part No: MCP6004-I/ST; Order Code: *; Component Type: IC; Supplier: *
footprint MCP6004-I/ST
part A pins: 1, 2, 3
part B pins: 5, 6, 7
part C pins: 8, 9, 10
part D pins: 12, 13, 14
part E pins: 4 VDD, 11 GND
part E text: SUPPLY

## MCP23017-E/SS
designator IC?
Manufacturer Part No: MCP23017-E/SS; Manufacturer: MICROCHIP; Component Type: IC; Order Code: *; Supplier: *
footprint MCP23017-E/SS (SOP, 28-Leads, Body 10.20x5.30mm, Pitch 0.65mm, IPC Medium Density)
pins: 1 GPB0, 2 GBP1, 3 GBP2, 4 GBP3, 5 GBP4, 6 GBP5, 7 GBP6, 8 GBP7, 9 VDD, 10 VSS, 11 NC, 12 SCL, 13 SDA, 14 NC, 15 A0, 16 A1, 17 A2, 18 ~{RESET}, 19 INTB, 20 INTA, 21 GPA0, 22 GPA1, 23 GPA2, 24 GPA3, 25 GPA4, 26 GPA5, 27 GPA6, 28 GPA7

## MCP73871-2AAI/ML
designator IC?  (value not drawn)
MICROCHIP  MCP73871-2AAI/ML  IC, BATTERY MANAGEMENT CONT., QFN20; Manufacturer: MICROCHIP; Component Type: IC; Manufacturer Part No: MCP73871-2AAI/ML; Order Code: *; Supplier: *
footprint MCP73871-2AAI/ML (QFN, 20-Leads, Body 4.00x4.00mm, Pitch 0.50mm, Thermal Pad 2.70x2.70mm, IPC Medium Density)
pins: 1 OUT, 2 VPCC, 3 SEL, 4 PROG2, 5 THERM, 6 ~{PG}, 7 STAT2, 8 STAT1/~{LBO}, 9 ~{TE}, 10 VSS, 11 VSS, 12 PROG3, 13 PROG1, 14 VBAT, 15 VBAT, 16 VBAT, 17 CE, 18 IN, 19 IN, 20 OUT, 21 VSS

## MCSJK-7I-8.00-10-30-60-B-30
designator Y?
Manufacturer Part No: MCSJK-7I-8.00-10-30-60-B-30; Manufacturer: MULTICOMP; Order Code: *; Component Type: Crystal; Supplier: *
footprint MCSJK-7I-8.00-10-30-60-B-30
pins: 1, 2, 3, 4

## METZ_CONNECT _31059102
designator CON?  (value not drawn)
METZ CONNECT  31059102  Wire-To-Board Terminal Block, 2, 125 V, 13.5 A, 28 AWG, 16 AWG, 1 mm²; Component Type: Connector; Manufacturer: METZ CONNECT; Manufacturer Part No: 31059102; Supplier: *; Order Code: *
footprint METZ_CONNECT _31059102
pins: 1, 2

## METZ_CONNECT_31059104
designator CON?
METZ CONNECT  31059104  Wire-To-Board Terminal Block, 4, 125 V, 13.5 A, 28 AWG, 16 AWG, 1 mm²; Manufacturer: METZ CONNECT; Manufacturer Part No: 31059104; Order Code: *; Supplier: *; Component Type: Connector
footprint METZ_CONNECT _31059104
pins: 1, 2, 3, 4

## MI0805K601R-10
designator FB?
LAIRD TECHNOLOGIES  MI0805K601R-10  FERRITE, BEAD, 2012, 100MHZ, 600R; Manufacturer Part No: MI0805K601R-10; Manufacturer: LAIRD TECHNOLOGIES; Component Type: Ferrite Bead; Order Code: *; Supplier: *
footprint 0805
pins: 1, 2

## MIC2790L-04VD6-T5
designator IC?
Manufacturer: MICROCHIP; Manufacturer Part No: MIC2790L-04VD6-T5; Component Type: IC; Supplier: *; Order Code: *
footprint MIC2790L-04VD6-T5
pins: 1 RESET#, 2 GND, 3 MR#, 4 CTH, 5 SNS, 6 VDD

## MIC5504-3.3YM5-T5
designator IC?
Manufacturer Part No: MIC5504-3.3YM5-T5; Manufacturer: MICROCHIP; Order Code: *; Supplier: *; Component Type: IC
footprint MIC5504-3.3YM5-T5
pins: 1 VIN, 2 GND, 3 EN, 4 NC, 5 VOUT

## MIC6315-29D4UY-TR
designator IC?
MICROCHIP  MIC6315-29D4UY-TR  RESET, ACTIVE LOW, 2.93V, 20MS, 4SOT143; Component Type: IC; Manufacturer: MICROCHIP; Manufacturer Part No: MIC6315-29D4UY-TR; Order Code: *; Supplier: *
footprint MIC6315-29D4UY-TR
pins: 1 GND, 2 ~{RESET}, 3 ~{MR}, 4 VCC

## MIC94163YCS-TR
designator IC?
Manufacturer: MICROCHIP; Manufacturer Part No: MIC94163YCS-TR; Component Type: IC; Order Code: *; Supplier: *
footprint MIC94163YCS-TR
pins: A1 VOUT, A2 VIN, B1 VOUT, B2 VIN, C1 GND, C2 EN

## Micro MATE-N-LOK 2-1445057-2
designator CON?
TE CONNECTIVITY / AMP  2-1445057-2  Wire-To-Board Connector, Right Angle, Micro MATE-N-LOK Series, Surface Mount, Header, 2, 3 mm; Manufacturer: TE CONNECTIVITY / AMP; Manufacturer Part No: 2-1445057-2; Order Code: *; Supplier: *; Component Type: Connector
footprint Micro MATE-N-LOK 2-1445057-2
pins: 1, 2, 3 NC, 4 NC

## MicroSD_47219-2001
designator CON?
Manufacturer: MOLEX; Manufacturer Part No: 47219-2001; Component Type: Connector; Order Code: *; Supplier: *
footprint MicroSD_47219-2001
pins: 1 DAT2, 2 CD/DAT3, 3 CMD, 4 VDD, 5 CLK, 6 VSS, 7 DAT0, 8 DAT1, 9 GND, 10 GND, 11 GND, 12 GND

## MicroSDCard
designator CON?
HIROSE(HRS)  DM3AT-SF-PEJM5(40)  CONNECTOR, MICRO SD, PUSH PUSH, SMT, R/A; Manufacturer: HIROSE(HRS); Manufacturer Part No: DM3AT-SF-PEJM5(40); Order Code: *; Supplier: *; Component Type: MicroSD
footprint dm3at
pins: 0 BODY, 1 DAT2 (io), 2 CD/DAT3 (io), 3 CMD (io), 4 VDD (power), 5 CLK (in), 6 GND (power), 7 DAT0 (io), 8 DAT1 (io), SWA SWITCHA, SWB SWITCHB

## MicroUSB
designator CON?
AMPHENOL FCI  10104110-0001LF  MICRO USB, 2.0 TYPE B, RECEPTACLE, SMT; Manufacturer: AMPHENOL FCI; Manufacturer Part No: 10104110-0001LF; Component Type: Connector; Order Code: *; Supplier: *
footprint MicroUSB
pins: 1 VBUS, 2 D-, 3 D+, 4 ID, 5 GND, 6 BODY, 7 BODY, 8 BODY, 9 BODY

## MicroUSB_Molex_105017-0001
designator CON?  (value not drawn)
MOLEX  105017-0001  USB Connector, Micro USB Type B, USB 2.0, Receptacle, 5 Ways, Surface Mount, Right Angle; Manufacturer: MOLEX; Manufacturer Part No: 105017-0001; Component Type: Connector; Order Code: *; Supplier: *
footprint MicroUSB_Molex_105017-0001
pins: 1 VBUS, 2 D-, 3 D+, 4 ID, 5 GND, 6, 7, 8, 9, 10, 11
text: Shield

## MLZ2012N6R8LT
designator L?
TDK  MLZ2012N6R8LT  Surface Mount High Frequency Inductor, MLZ Series, 6.8 µH, 550 mA, 0805 [2012 Metric], Multilayer; Manufacturer: TDK; Manufacturer Part No: MLZ2012N6R8LT; Component Type: Inductor; Order Code: *; Supplier: *
footprint 0805
pins: 1, 2

## MM3ZxxxST1G
designator D?
Manufacturer Part No: MM3ZxxxST1G; Manufacturer: ON SEMICONDUCTOR; Order Code: *; Supplier: *; Component Type: Diode
footprint MM3ZxxxST1G
pins: 1 A, 2 K

## MMA8452Q
designator IC?
Manufacturer Part No: MMA8452Q; Manufacturer: NXP; Component Type: IC; Order Code: *; Supplier: *
footprint MMA8452Q
pins: 1 VDDIO (power), 2 BYP, 3 N.C, 4 SCL, 5 GND (power), 6 SDA, 7 SA0 "Least Significant Bit of the Device I2C Address", 8 N.C, 9 INT2, 10 GND (power), 11 INT1, 12 GND (power), 13 N.C, 14 VDD (power), 15 N.C, 16 N.C

## MOLEX  78800-0001  MICRO SIM
designator CON?
MOLEX  78800-0001  MICRO SIM, PUSH-PULL, 1.4MM, SMT; Manufacturer: MOLEX; Manufacturer Part No: 78800-0001; Order Code: *; Supplier: *; Component Type: Connector
footprint MOLEX  78800-0001  MICRO SIM
pins: 1 VCC, 2 RESET, 3 CLOCK, 5 GND, 6 Vpp, 7 I/O, 8, 9, 10, 11

## MOLEX_39301020
designator CON?
Manufacturer: Molex; Manufacturer Part No: 39301020; Component Type: Connector; Order Code: *; Supplier: *
footprint MOLEX_39301020
pins: 1, 2

## N25Q064A13ESE40E
designator IC?
MICRON  N25Q064A13ESE40E  Flash Memory, NOR, 64 Mbit, 512K x 16bit, 108 MHz, SPI, WSOIC, 8 Pins; Manufacturer: MICRON; Manufacturer Part No: N25Q064A13ESE40E; Component Type: IC; Order Code: *; Supplier: *
footprint N25Q064A13ESE40E (SOIC, 8-Leads, Body 6.05x5.62mm, Pitch 1.27mm, IPC Medium Density)
pins: 1 ~{S}, 2 DQ1 , 3 ~{W}/VPP/DQ2, 4 VSS, 5 DQ0, 6 C, 7 ~{HOLD}/DQ3, 8 VCC 

## NC7WZ125K8X
designator IC?
FAIRCHILD SEMICONDUCTOR  NC7WZ125K8X  Buffer, 1.65 V to 5.5 V, US8-8; Manufacturer: ON SEMICONDUCTOR; Component Type: IC; Manufacturer Part No: NC7WZ125K8X; Order Code: *; Supplier: *
footprint NC7WZ125K8X
pins: 1 OE1#, 2 A1, 3 Y2, 4 GND, 5 A2, 6 Y1, 7 OE2#, 8 VCC

## NCP160AFCS330T2G
designator IC?
LDO Voltage Regulator, Fixed, 1.9 V to 5.5 V in, 80 mV drop, 3.3 V/250 mA out, WLCSP-4; Manufacturer: ON SEMICONDUCTOR; Manufacturer Part No: NCP160AFCS330T2G; Component Type: IC; Order Code: *; Supplier: *
footprint NCP160AFCS330T2G
pins: A1 IN, A2 OUT, B1 EN, B2 GND

## NCP303LSN25T1G
designator IC?  (value not drawn)
Manufacturer Part No: NCP303LSN25T1G; Manufacturer: ON SEMICONDUCTOR; Component Type: IC; Order Code: *; Supplier: *
footprint NCP303LSN25T1G
pins: 1 ~{RESET}, 2 INPUT, 3 GND, 4 NC, 5 CD

## NCP1529MUTBG
designator IC?
Manufacturer: ON SEMICONDUCTOR; Manufacturer Part No: NCP1529MUTBG; Component Type: IC; Order Code: *; Supplier: *
footprint NCP1529MUTBG
pins: 1 FB, 2 GND, 3 VIN, 4 GND, 5 SW, 6 EN, 7 GND

## NCP5662DSADJR4G
designator IC?
ON SEMICONDUCTOR  NCP5662DSADJR4G  LDO Voltage Regulator, Adjustable, 2V to 9V in, 1V drop, 2A out, TO-263-5; Component Type: IC; Manufacturer Part No: NCP5662DSADJR4G; Manufacturer: ON SEMICONDUCTOR; Order Code: *; Supplier: *
footprint NCP5662DSADJR4G
pins: 1 EN, 2 VIN, 3 GND, 4 VOUT, 5 ADJ, 6 GND

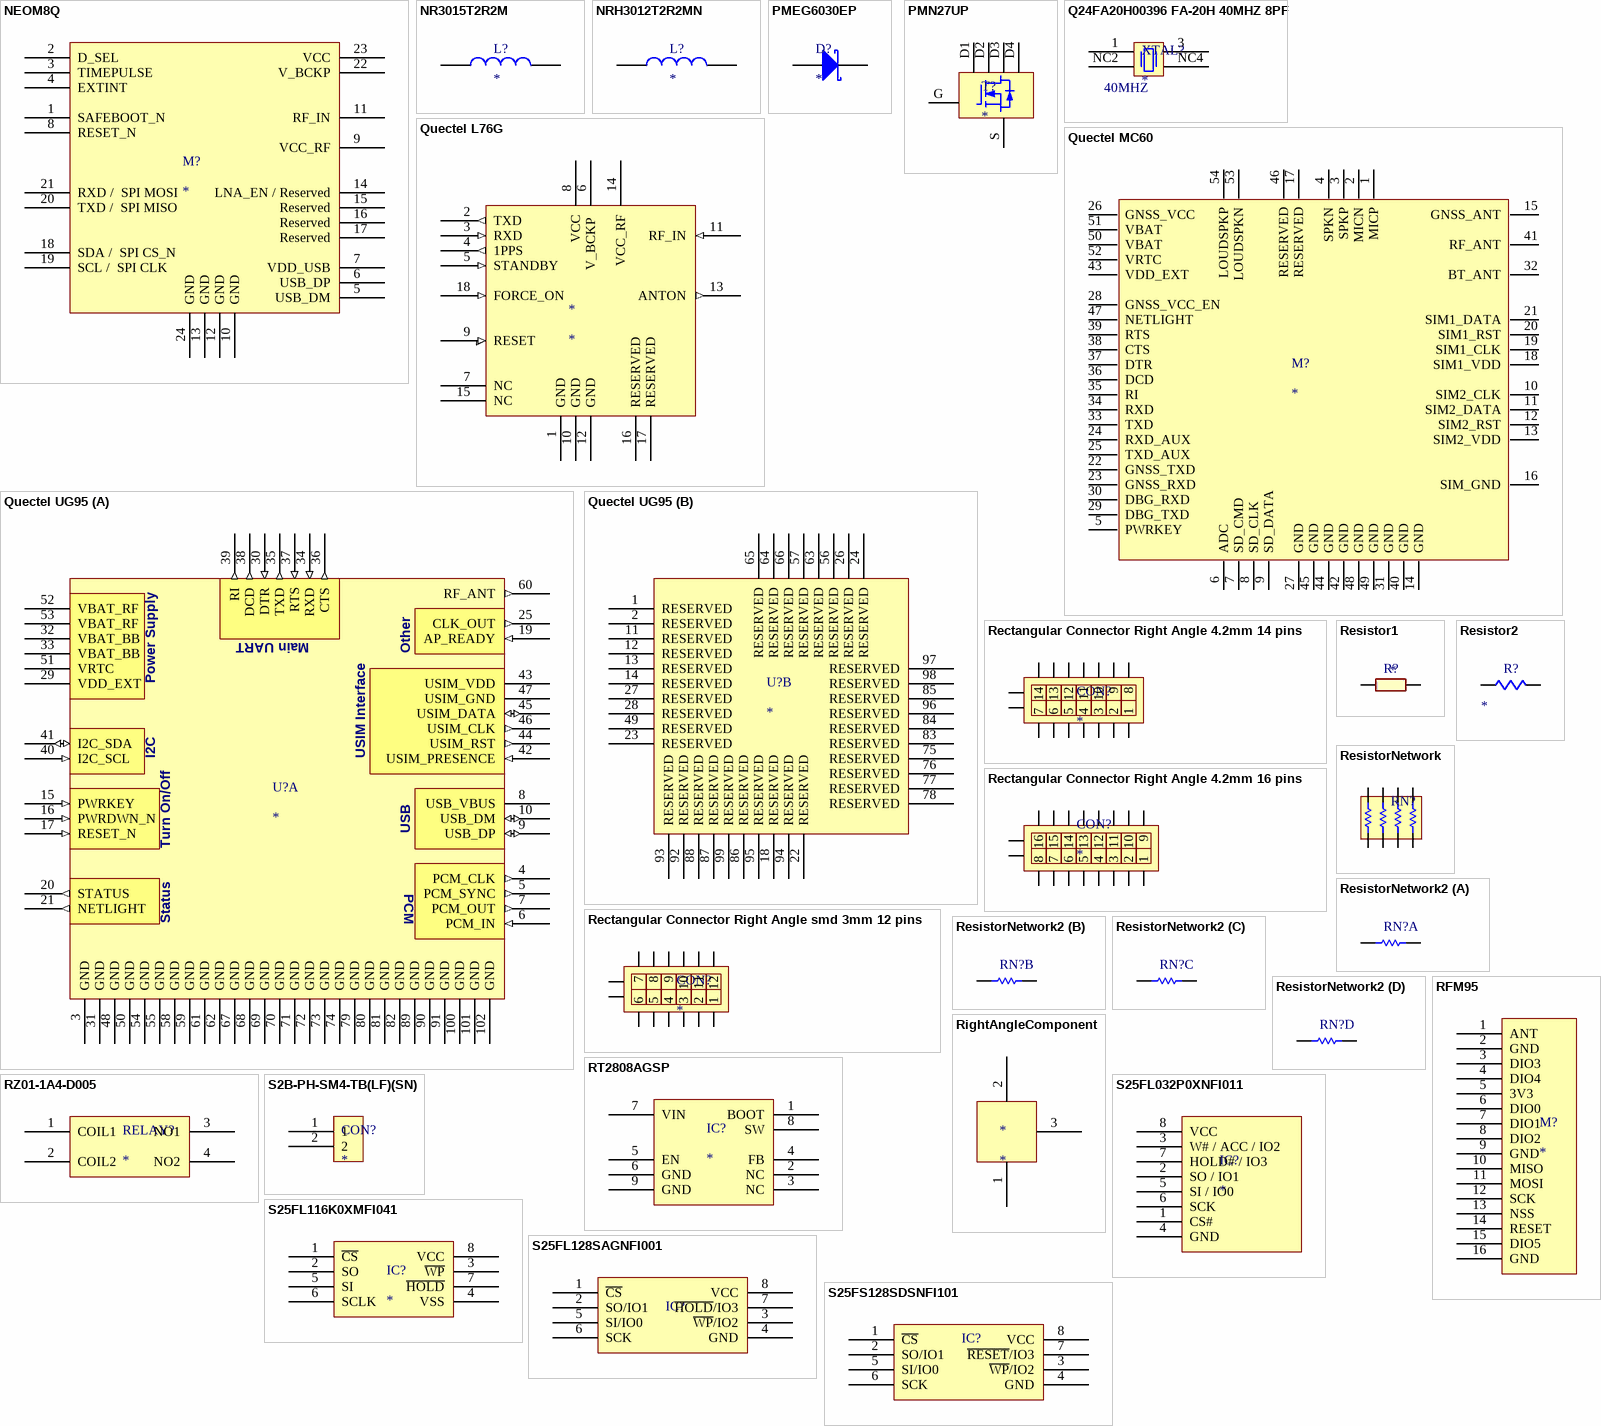
[diagram p5: symbols NEOM8Q to S25FS128SDSNFI101]

## NEOM8Q
designator M?
Manufacturer: UBLOX; Manufacturer Part No: NEO-M8Q; Component Type: Module GPS; Order Code: *; Supplier: *
footprint NEOM8Q
pins: 1 SAFEBOOT_N, 2 D_SEL "SPI Slave Select", 3 TIMEPULSE, 4 EXTINT, 5 USB_DM, 6 USB_DP, 7 VDD_USB, 8 RESET_N, 9 VCC_RF, 10 GND, 11 RF_IN "GPS Signal Input", 12 GND, 13 GND, 14 LNA_EN / Reserved, 15 Reserved, 16 Reserved, 17 Reserved, 18 SDA /  SPI CS_N, 19 SCL /  SPI CLK, 20 TXD /  SPI MISO, 21 RXD /  SPI MOSI, 22 V_BCKP, 23 VCC, 24 GND

## NR3015T2R2M
designator L?
Manufacturer: TAIYO YUDEN; Manufacturer Part No: NR3015T2R2M; Value: 2.2uH; Component Type: Inductor; Order Code: *; Supplier: *
footprint NR3015T2R2M
pins: 1, 2

## NRH3012T2R2MN
designator L?
Manufacturer: Taiyo Yuden; Manufacturer Part No: NRH3012T2R2MN; Order Code: *; Supplier: *; Component Type: Inductor
footprint NRH3012T2R2MN
pins: 1, 2

## PMEG6030EP
designator D?
NXP  PMEG6030EP  Schottky Rectifier, Single, 60 V, 3 A, SOD-128, 2, 530 mV; Manufacturer: NXP; Manufacturer Part No: PMEG6030EP; Component Type: Diode; Order Code: *; Supplier: *
footprint PMEG6030EP
pins: 1 A, 2 K

## PMN27UP
designator T?
Manufacturer: NEXPERIA; Manufacturer Part No: PMN27UP; Component Type: Transistor; Order Code: *; Supplier: *
footprint PMN27UP
pins: D1 D, D2 D, D3 D, D4 D, G, S

## Q24FA20H00396 FA-20H 40MHZ 8PF
designator XTAL?  value 40MHZ
EPSON  Q24FA20H00396 FA-20H 40MHZ 8PF  CRYSTAL, 40MHZ, 8PF, 2.5 X 2MM; Manufacturer: EPSON; Manufacturer Part No: Q24FA20H00396 FA-20H 40MHZ 8PF; Component Type: Crystal; Order Code: *; Supplier: *
footprint Q24FA20H00396 FA-20H 40MHZ 8PF
pins: 1, 3, NC2, NC4

## Quectel L76G
designator *
pins: 1 GND (power), 2 TXD (out), 3 RXD (in), 4 1PPS (out), 5 STANDBY  (in), 6 V_BCKP , 7 NC, 8 VCC (power), 9 RESET (in), 10 GND (power), 11 RF_IN (in), 12 GND (power), 13 ANTON (out), 14 VCC_RF (power), 15 NC, 16 RESERVED, 17 RESERVED, 18 FORCE_ON (in)

## Quectel MC60
designator M?
Manufacturer: Quectel; Manufacturer Part No: MC60; Component Type: Module GSM/GPRS/GPS; Supplier: *; Order Code: *
footprint Quectel MC60
pins: 1 MICP, 2 MICN, 3 SPKP, 4 SPKN, 5 PWRKEY, 6 ADC, 7 SD_CMD, 8 SD_CLK, 9 SD_DATA, 10 SIM2_CLK, 11 SIM2_DATA, 12 SIM2_RST, 13 SIM2_VDD, 14 GND, 15 GNSS_ANT, 16 SIM_GND, 17 RESERVED, 18 SIM1_VDD, 19 SIM1_CLK, 20 SIM1_RST, 21 SIM1_DATA, 22 GNSS_TXD, 23 GNSS_RXD, 24 RXD_AUX, 25 TXD_AUX, 26 GNSS_VCC, 27 GND, 28 GNSS_VCC_EN, 29 DBG_TXD, 30 DBG_RXD, 31 GND, 32 BT_ANT, 33 TXD, 34 RXD, 35 RI, 36 DCD, 37 DTR, 38 CTS, 39 RTS, 40 GND, 41 RF_ANT, 42 GND, 43 VDD_EXT, 44 GND, 45 GND, 46 RESERVED, 47 NETLIGHT, 48 GND, 49 GND, 50 VBAT, 51 VBAT, 52 VRTC, 53 LOUDSPKN, 54 LOUDSPKP

## Quectel UG95
designator U?
Manufacturer Part No: UG95; Manufacturer: Quectel; Component Type: Module UMTS/HSPA; Supplier: *; Order Code: *
footprint Quectel UG95
part A pins: 3 GND  (power), 4 PCM_CLK (out), 5 PCM_SYNC (out), 6 PCM_IN (in), 7 PCM_OUT (out), 8 USB_VBUS (power), 9 USB_DP (io), 10 USB_DM (io), 15 PWRKEY (in), 16 PWRDWN_N (in), 17 RESET_N (in), 19 AP_READY (in), 20 STATUS (out), 21 NETLIGHT (out), 25 CLK_OUT (out), 29 VDD_EXT (power), 30 DTR (in), 31 GND  (power), 32 VBAT_BB (power), 33 VBAT_BB (power), 34 RXD (in), 35 TXD (out), 36 CTS (out), 37 RTS (in), 38 DCD (out), 39 RI (out), 40 I2C_SCL (in), 41 I2C_SDA (io), 42 USIM_PRESENCE (in), 43 USIM_VDD (power), 44 USIM_RST (out), 45 USIM_DATA (io), 46 USIM_CLK (out), 47 USIM_GND (power), 48 GND  (power), 50 GND  (power), 51 VRTC (power), 52 VBAT_RF (power), 53 VBAT_RF (power), 54 GND  (power), 55 GND  (power), 58 GND  (power), 59 GND  (power), 60 RF_ANT (out), 61 GND  (power), 62 GND  (power), 67 GND  (power), 68 GND  (power), 69 GND  (power), 70 GND  (power), 71 GND  (power), 72 GND  (power), 73 GND  (power), 74 GND  (power), 79 GND  (power), 80 GND  (power), 81 GND  (power), 82 GND  (power), 89 GND  (power), 90 GND  (power), 91 GND  (power), 100 GND  (power), 101 GND  (power), 102 GND  (power)
part B pins: 1 RESERVED, 2 RESERVED, 11 RESERVED, 12 RESERVED, 13 RESERVED, 14 RESERVED, 18 RESERVED, 22 RESERVED, 23 RESERVED, 24 RESERVED, 26 RESERVED, 27 RESERVED, 28 RESERVED, 49 RESERVED, 56 RESERVED, 57 RESERVED, 63 RESERVED, 64 RESERVED, 65 RESERVED, 66 RESERVED, 75 RESERVED, 76 RESERVED, 77 RESERVED, 78 RESERVED, 83 RESERVED, 84 RESERVED, 85 RESERVED, 86 RESERVED, 87 RESERVED, 88 RESERVED, 92 RESERVED, 93 RESERVED, 94 RESERVED, 95 RESERVED, 96 RESERVED, 97 RESERVED, 98 RESERVED, 99 RESERVED
part A text: Main UART; Other; Power Supply; I2C; USIM Interface; USB; Turn On/Off; PCM; Status

## Rectangular Connector Right Angle 4.2mm 14 pins
designator CON?
Manufacturer: *; Manufacturer Part No: *; Component Type: Connector; Order Code: *; Supplier: *
footprint Rectangular Connector Right Angle 4.2mm 14 pins
pins: 1, 2, 3, 4, 5, 6, 7, 8, 9, 10, 11, 12, 13, 14, 15, 16

## Rectangular Connector Right Angle 4.2mm 16 pins
designator CON?
Manufacturer: *; Manufacturer Part No: *; Component Type: Connector; Order Code: *; Supplier: *
footprint Rectangular Connector Right Angle 4.2mm 16 pins
pins: 1, 2, 3, 4, 5, 6, 7, 8, 9, 10, 11, 12, 13, 14, 15, 16, 17, 18

## Rectangular Connector Right Angle smd 3mm 12 pins
designator CON?
Manufacturer: Wurth Electronics; Manufacturer Part No: 662012231722; Order Code: *; Component Type: Connector; Supplier: *
footprint Rectangular Connector Right Angle smd 3mm 12 pins
pins: 1, 2, 3, 4, 5, 6, 7, 8, 9, 10, 11, 12, 13, 14

## Resistor1
designator R?
Manufacturer: *; Manufacturer Part No: *; Component Type: Resistor; Value: *
footprint 0805
footprint 1206
footprint 1210
footprint 0603
footprint 0402
pins: 1, 2

## Resistor2
designator R?
Manufacturer: *; Manufacturer Part No: *; Component Type: Resistor; Supplier: *; Order Code: *; Value: *
footprint 0805
footprint 0603
footprint 0402
footprint 1206
footprint 1210
pins: 1, 2

## ResistorNetwork
designator RN?  (value not drawn)
Order Code: *; Supplier: *; Component Type: Resistor Array; Manufacturer Part No: *; Manufacturer: *; Value: *
footprint RESISTORNETWORK_1206
pins: 1, 2, 3, 4, 5, 6, 7, 8

## ResistorNetwork2
designator RN?  (value not drawn)
Manufacturer: *; Manufacturer Part No: *; Component Type: Resistor Array; Order Code: *; Supplier: *; Value: *
footprint RESISTORNETWORK_1206
part A pins: 1, 8
part B pins: 2, 7
part C pins: 3, 6
part D pins: 4, 5

## RFM95
designator M?
Manufacturer: HOPERF ELECTRONIC; Manufacturer Part No: RFM95; Order Code: *; Supplier: *; Component Type: Module
footprint RFM95
pins: 1 ANT, 2 GND, 3 DIO3, 4 DIO4, 5 3V3, 6 DIO0, 7 DIO1, 8 DIO2, 9 GND, 10 MISO, 11 MOSI, 12 SCK, 13 NSS, 14 RESET, 15 DIO5, 16 GND

## RightAngleComponent
designator *
footprint RightAngleComponent
pins: 1, 2, 3

## RT2808AGSP
designator IC?
Manufacturer: RICHTEK; Manufacturer Part No: RT2808AGSP; Component Type: IC; Order Code: *; Supplier: *
footprint RT2808AGSP (SOIC, 8-Leads, Body 4.90x3.91mm, Pitch 1.27mm, Thermal Pad 3.50x2.50mm, IPC Medium Density)
pins: 1 BOOT, 2 NC, 3 NC, 4 FB, 5 EN, 6 GND, 7 VIN, 8 SW, 9 GND

## RZ01-1A4-D005
designator RELAY?
SCHRACK - TE CONNECTIVITY  RZ01-1A4-D005  General Purpose Relay, RZ Series, Power, Non Latching, SPST-NO, 5 VDC, 12 A; Manufacturer: SCHRACK - TE CONNECTIVITY; Manufacturer Part No: RZ01-1A4-D005; Component Type: Relay; Order Code: *; Supplier: *
footprint RZ01-1A4-D005
pins: 1 COIL1, 2 COIL2, 3 NO1, 4 NO2

## S2B-PH-SM4-TB(LF)(SN)
designator CON?
JST (JAPAN SOLDERLESS TERMINALS)  S2B-PH-SM4-TB(LF)(SN)  Wire-To-Board Connector, Right Angle, PH Series, Surface Mount, Header, 2, 2 mm; Component Type: Connector; Manufacturer: JST (JAPAN SOLDERLESS TERMINALS); Manufacturer Part No: S2B-PH-SM4-TB(LF)(SN); Order Code: *; Supplier: *
footprint S2B-PH-SM4-TB(LF)(SN)
pins: 1, 2

## S25FL032P0XNFI011
designator IC?
Manufacturer: SPANSION; Manufacturer Part No: S25FL032P0XNFI011; Component Type: IC; Order Code: *; Supplier: *
footprint S25FL032P0XNFI011 (PSON, 8-Leads, Body 5,00x6,00mm, Pitch 1,27mm, Thermal Pad 4,00x3,40mm, IPC Medium Density)
pins: 1 CS#, 2 SO / IO1, 3 W# / ACC / IO2, 4 GND, 5 SI / IO0, 6 SCK, 7 HOLD# / IO3, 8 VCC

## S25FL116K0XMFI041
designator IC?
SPANSION  S25FL116K0XMFI041  Flash Memory, NOR, 16 Mbit, 2M x 8bit, 108 MHz, SPI, SOIC, 8 Pins; Manufacturer: SPANSION; Manufacturer Part No: S25FL116K0XMFI041; Component Type: IC; Order Code: *; Supplier: *
footprint S25FL116K0XMFI041 (SOIC, 8-Leads, Body 4.90x3.90mm, Pitch 1.27mm, IPC Medium Density)
pins: 1 ~{CS}, 2 SO, 3 ~{WP}, 4 VSS, 5 SI, 6 SCLK, 7 ~{HOLD}, 8 VCC

## S25FL128SAGNFI001
designator IC?  (value not drawn)
SPANSION  S25FL128SAGNFI001  MEMORY, FLASH, 128MBIT, 8WSON; Manufacturer: SPANSION; Manufacturer Part No: S25FL128SAGNFI001; Component Type: IC; Order Code: *; Supplier: *
footprint S25FL128SAGNFI001
pins: 1 ~{CS}, 2 SO/IO1, 3 ~{WP}/IO2, 4 GND, 5 SI/IO0, 6 SCK, 7 ~{HOLD}/IO3, 8 VCC